# Altium schematic symbol library LIBRARY_SCH.SCHLIB: 713 symbols (part 4 of 6)
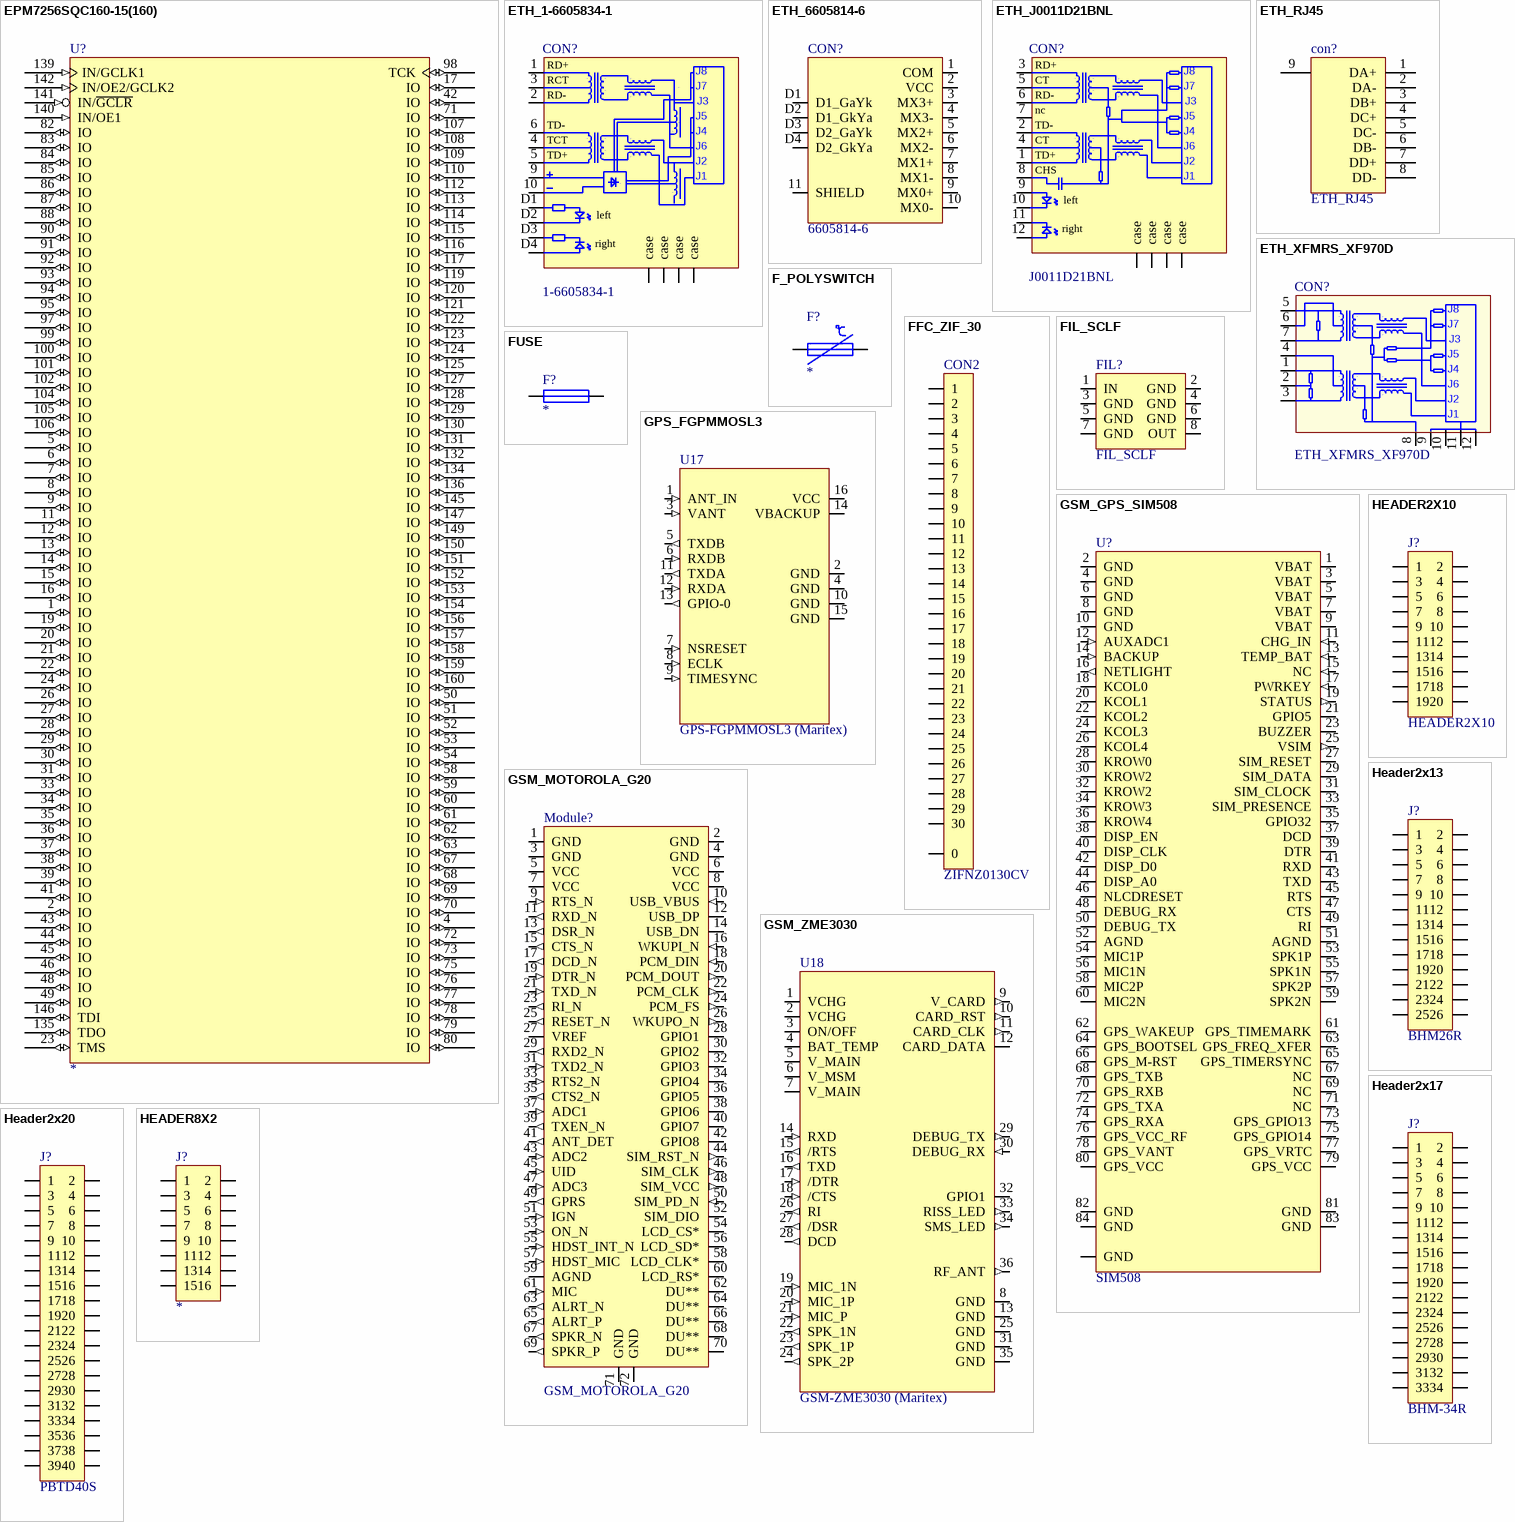
[diagram p42: symbols EPM7256SQC160-15(160) to HEADER8X2]

## EPM7256SQC160-15(160)
designator U?
MAX 7000 Programmabe Logic Device Family
footprint QFP28X28-160(N)
pins: 1 IO (io), 2 IO (io), 4 IO (io), 5 IO (io), 6 IO (io), 7 IO (io), 8 IO (io), 9 IO (io), 11 IO (io), 12 IO (io), 13 IO (io), 14 IO (io), 15 IO (io), 16 IO (io), 17 IO (io), 19 IO (io), 20 IO (io), 21 IO (io), 22 IO (io), 23 TMS (io), 24 IO (io), 26 IO (io), 27 IO (io), 28 IO (io), 29 IO (io), 30 IO (io), 31 IO (io), 33 IO (io), 34 IO (io), 35 IO (io), 36 IO (io), 37 IO (io), 38 IO (io), 39 IO (io), 41 IO (io), 42 IO (io), 43 IO (io), 44 IO (io), 45 IO (io), 46 IO (io), 48 IO (io), 49 IO (io), 50 IO (io), 51 IO (io), 52 IO (io), 53 IO (io), 54 IO (io), 58 IO (io), 59 IO (io), 60 IO (io), 61 IO (io), 62 IO (io), 63 IO (io), 67 IO (io), 68 IO (io), 69 IO (io), 70 IO (io), 71 IO (io), 72 IO (io), 73 IO (io), 75 IO (io), 76 IO (io), 77 IO (io), 78 IO (io), 79 IO (io), 80 IO (io), 82 IO (io), 83 IO (io), 84 IO (io), 85 IO (io), 86 IO (io), 87 IO (io), 88 IO (io), 90 IO (io), 91 IO (io), 92 IO (io), 93 IO (io), 94 IO (io), 95 IO (io), 97 IO (io), 98 TCK (io), 99 IO (io), 100 IO (io), 101 IO (io), 102 IO (io), 104 IO (io), 105 IO (io), 106 IO (io), 107 IO (io), 108 IO (io), 109 IO (io), 110 IO (io), 112 IO (io), 113 IO (io), 114 IO (io), 115 IO (io), 116 IO (io), 117 IO (io), 119 IO (io), 120 IO (io), 121 IO (io), 122 IO (io), 123 IO (io), 124 IO (io), 125 IO (io), 127 IO (io), 128 IO (io), 129 IO (io), 130 IO (io), 131 IO (io), 132 IO (io), 134 IO (io), 135 TDO (io), 136 IO (io), 139 IN/GCLK1 (in), 140 IN/OE1 (in), 141 IN/~{GCLR} (in), 142 IN/OE2/GCLK2 (in), 145 IO (io), 146 TDI (io), 147 IO (io), 149 IO (io), 150 IO (io), 151 IO (io), 152 IO (io), 153 IO (io), 154 IO (io), 156 IO (io), 157 IO (io), 158 IO (io), 159 IO (io), 160 IO (io)
2 alternate drawings of the same symbol

## ETH_1-6605834-1
designator CON?, comment 1-6605834-1
RJ45 with magnetics and LEDs (Pulse)
footprint ETH_1-6605834-1 (ethernet trafo with magnetics and LEDs)
pins: 0a case, 0b case, 0c case, 0d case, 1, 2, 3, 4, 5, 6 TD-, 9, 10, D1, D2, D3, D4
text: RD+; J8; RCT; J7; RD-; J3; J5; J4; TCT; J6; TD+; J2; J1; left; right

## ETH_6605814-6
designator CON?, comment 6605814-6
TYCO 7G05 series gigabit ethernet connector (Farnell)
footprint rj7G
pins: 1 COM, 2 VCC, 3 MX3+, 4 MX3-, 5 MX2+, 6 MX2-, 7 MX1+, 8 MX1-, 9 MX0+, 10 MX0-, 11 SHIELD, 11a SHIELD, D1 D1_GaYk, D2 D1_GkYa, D3 D2_GaYk, D4 D2_GkYa
2 alternate drawings of the same symbol

## ETH_J0011D21BNL
designator CON?, comment J0011D21BNL
RJ45 with magnetics and LEDs (Kamami, Kristech,Mouser)
footprint J0011D21BNL (ethernet trafo with magnetics and LEDs)
pins: 0a case, 0b case, 0c case, 0d case, 1, 2 TD-, 3, 4, 5, 6, 7, 8, 9, 10, 11, 12
text: RD+; J8; CT; J7; RD-; J3; nc; J5; J4; J6; TD+; J2; CHS; J1; left; right

## ETH_RJ45
designator con?
Ethernet Connector
footprint MOLEX_ETH_VERT
footprint MOLEX_ETH_HORIZ
pins: 1 DA+, 2 DA-, 3 DB+, 4 DC+, 5 DC-, 6 DB-, 7 DD+, 8 DD-, 9
2 alternate drawings of the same symbol

## ETH_XFMRS_XF970D
designator CON?
footprint XFMRS_XF970D
pins: 1, 2, 3, 4, 5, 6, 7, 8, 9, 10, 11, 12
text: J8; J7; J3; J5; J4; J6; J2; J1

## F_POLYSWITCH
designator F?
polymer FUSE
footprint SMD150-2
footprint SMD125-2
footprint PTC_SMD_1812
pins: 1, 2
2 alternate drawings of the same symbol

## FFC_ZIF_30
designator CON2, comment ZIFNZ0130CV
FFC cable connector (maritex)
footprint ZIFNZ0330-LF
footprint ZIFNZ0130
footprint ZIFNZ0130CV
pins: 0, 1, 2, 3, 4, 5, 6, 7, 8, 9, 10, 11, 12, 13, 14, 15, 16, 17, 18, 19, 20, 21, 22, 23, 24, 25, 26, 27, 28, 29, 30

## FIL_SCLF
designator FIL?
Minicircuits filter
footprint SCLF
pins: 1 IN, 2 GND, 3 GND, 4 GND, 5 GND, 6 GND, 7 GND, 8 OUT
2 alternate drawings of the same symbol

## FUSE
designator F?
Fuse
footprint FUSE_SMD
footprint fuse4
footprint FUSE_451
footprint car_fuse_19mm
footprint fuse_ZHL32 (ZHL32 (TME))
pins: 1, 2
2 alternate drawings of the same symbol

## GPS_FGPMMOSL3
designator U17, comment GPS-FGPMMOSL3 (Maritex)
mini GPS module
footprint FGPMMOSL3
footprint FGPMMOSL3
pins: 1 ANT_IN (in), 2 GND, 3 VANT (in), 4 GND, 5 TXDB (out), 6 RXDB (in), 7 NSRESET (in), 8 ECLK (in), 9 TIMESYNC (in), 10 GND, 11 TXDA (out), 12 RXDA (in), 13 GPIO-0 (out), 14 VBACKUP, 15 GND, 16 VCC

## GSM_GPS_SIM508
designator U?, comment SIM508
GSM module with GPS receiver (Maritex)
footprint GSM_GPS_SIM508
pins: 0a GND, 0b GND, 0c GND, 0d GND, 1 VBAT (power), 2 GND (power), 3 VBAT (power), 4 GND (power), 5 VBAT (power), 6 GND (power), 7 VBAT (power), 8 GND (power), 9 VBAT (power), 10 GND (power), 11 CHG_IN (in), 12 AUXADC1 (in), 13 TEMP_BAT (in), 14 BACKUP (in), 15 NC (in), 16 NETLIGHT (out), 17 PWRKEY (in), 18 KCOL0, 19 STATUS (out), 20 KCOL1, 21 GPIO5, 22 KCOL2, 23 BUZZER, 24 KCOL3, 25 VSIM (out), 26 KCOL4, 27 SIM_RESET, 28 KROW0, 29 SIM_DATA, 30 KROW2, 31 SIM_CLOCK, 32 KROW2, 33 SIM_PRESENCE, 34 KROW3, 35 GPIO32, 36 KROW4, 37 DCD, 38 DISP_EN, 39 DTR, 40 DISP_CLK, 41 RXD, 42 DISP_D0, 43 TXD, 44 DISP_A0, 45 RTS, 46 NLCDRESET, 47 CTS, 48 DEBUG_RX, 49 RI, 50 DEBUG_TX, 51 AGND, 52 AGND, 53 SPK1P, 54 MIC1P, 55 SPK1N, 56 MIC1N, 57 SPK2P, 58 MIC2P, 59 SPK2N, 60 MIC2N, 61 GPS_TIMEMARK, 62 GPS_WAKEUP, 63 GPS_FREQ_XFER, 64 GPS_BOOTSEL, 65 GPS_TIMERSYNC, 66 GPS_M-RST, 67 NC, 68 GPS_TXB, 69 NC, 70 GPS_RXB, 71 NC, 72 GPS_TXA, 73 GPS_GPIO13, 74 GPS_RXA, 75 GPS_GPIO14, 76 GPS_VCC_RF, 77 GPS_VRTC, 78 GPS_VANT, 79 GPS_VCC, 80 GPS_VCC, 81 GND, 82 GND, 83 GND, 84 GND

## GSM_MOTOROLA_G20
designator Module?
footprint GSM_MOTOROLA_G20
pins: 1 GND (power), 2 GND (power), 3 GND (power), 4 GND (power), 5 VCC (power), 6 VCC (power), 7 VCC (power), 8 VCC (power), 9 RTS_N (in), 10 USB_VBUS (in), 11 RXD_N (out), 12 USB_DP (io), 13 DSR_N (out), 14 USB_DN (io), 15 CTS_N (out), 16 WKUPI_N (in), 17 DCD_N (out), 18 PCM_DIN (in), 19 DTR_N (in), 20 PCM_DOUT (out), 21 TXD_N (in), 22 PCM_CLK (out), 23 RI_N (out), 24 PCM_FS (out), 25 RESET_N (out), 26 WKUPO_N (out), 27 VREF, 28 GPIO1 (io), 29 RXD2_N (out), 30 GPIO2 (io), 31 TXD2_N (in), 32 GPIO3 (io), 33 RTS2_N (in), 34 GPIO4 (io), 35 CTS2_N (out), 36 GPIO5 (io), 37 ADC1 (in), 38 GPIO6 (io), 39 TXEN_N (out), 40 GPIO7 (io), 41 ANT_DET (out), 42 GPIO8 (io), 43 ADC2 (in), 44 SIM_RST_N (out), 45 UID (in), 46 SIM_CLK (out), 47 ADC3 (in), 48 SIM_VCC (out), 49 GPRS (out), 50 SIM_PD_N (in), 51 IGN (in), 52 SIM_DIO (io), 53 ON_N (in), 54 LCD_CS*, 55 HDST_INT_N (in), 56 LCD_SD*, 57 HDST_MIC (in), 58 LCD_CLK*, 59 AGND (power), 60 LCD_RS*, 61 MIC (in), 62 DU**, 63 ALRT_N (out), 64 DU**, 65 ALRT_P (out), 66 DU**, 67 SPKR_N (out), 68 DU**, 69 SPKR_P (out), 70 DU**, 71 GND (power), 72 GND (power)

## GSM_ZME3030
designator U18, comment GSM-ZME3030 (Maritex)
GSM/GPRS module
footprint MG3030
pins: 1 VCHG, 2 VCHG, 3 ON/OFF, 4 BAT_TEMP, 5 V_MAIN, 6 V_MSM, 7 V_MAIN, 8 GND, 9 V_CARD (out), 10 CARD_RST (out), 11 CARD_CLK (out), 12 CARD_DATA (io), 13 GND, 14 RXD (in), 15 /RTS (out), 16 TXD (out), 17 /DTR (in), 18 /CTS (in), 19 MIC_1N (in), 20 MIC_1P (in), 21 MIC_P (in), 22 SPK_1N (out), 23 SPK_1P (out), 24 SPK_2P (out), 25 GND, 26 RI (out), 27 /DSR (out), 28 DCD (out), 29 DEBUG_TX (out), 30 DEBUG_RX (in), 31 GND, 32 GPIO1, 33 RISS_LED (out), 34 SMS_LED (out), 35 GND, 36 RF_ANT (out)

## HEADER2X10
designator J?
2.54mm pitch connector
footprint HEADER2x10
footprint MOLEX_20_HORIZ_FEMALE
footprint MOLEX_20_HORIZ_MALE
footprint CON_2x10_mini
pins: 1, 2, 3, 4, 5, 6, 7, 8, 9, 10, 11, 12, 13, 14, 15, 16, 17, 18, 19, 20
2 alternate drawings of the same symbol

## Header2x13
designator J?, comment BHM26R
2x13 pin 2mm male right angle connector(Maritex)
footprint BHM26R (2mm IDC connector right angle)
pins: 1, 2, 3, 4, 5, 6, 7, 8, 9, 10, 11, 12, 13, 14, 15, 16, 17, 18, 19, 20, 21, 22, 23, 24, 25, 26
2 alternate drawings of the same symbol

## Header2x17
designator J?, comment BHM-34R
2x17pin 2mm male IDC connector (Maritex)
footprint BHM-34R (2mm IDC connector right angle)
pins: 1, 2, 3, 4, 5, 6, 7, 8, 9, 10, 11, 12, 13, 14, 15, 16, 17, 18, 19, 20, 21, 22, 23, 24, 25, 26, 27, 28, 29, 30, 31, 32, 33, 34
2 alternate drawings of the same symbol

## Header2x20
designator J?, comment PBTD40S
2x20 pin 2.54mm female SMT header (Maritex)
footprint CON_2X20
footprint PBTD40S (SMT 2.54 female header  (Maritex))
footprint PBTD40s_MIRRORED (SMT 2.54 female header  (Maritex))
pins: 1, 2, 3, 4, 5, 6, 7, 8, 9, 10, 11, 12, 13, 14, 15, 16, 17, 18, 19, 20, 21, 22, 23, 24, 25, 26, 27, 28, 29, 30, 31, 32, 33, 34, 35, 36, 37, 38, 39, 40
2 alternate drawings of the same symbol

## HEADER8X2
designator J?
footprint HEADER2x8
footprint Header2x8mini
footprint IDC_16_male (IDC 2x8 PCB male connector)
pins: 1, 2, 3, 4, 5, 6, 7, 8, 9, 10, 11, 12, 13, 14, 15, 16
2 alternate drawings of the same symbol

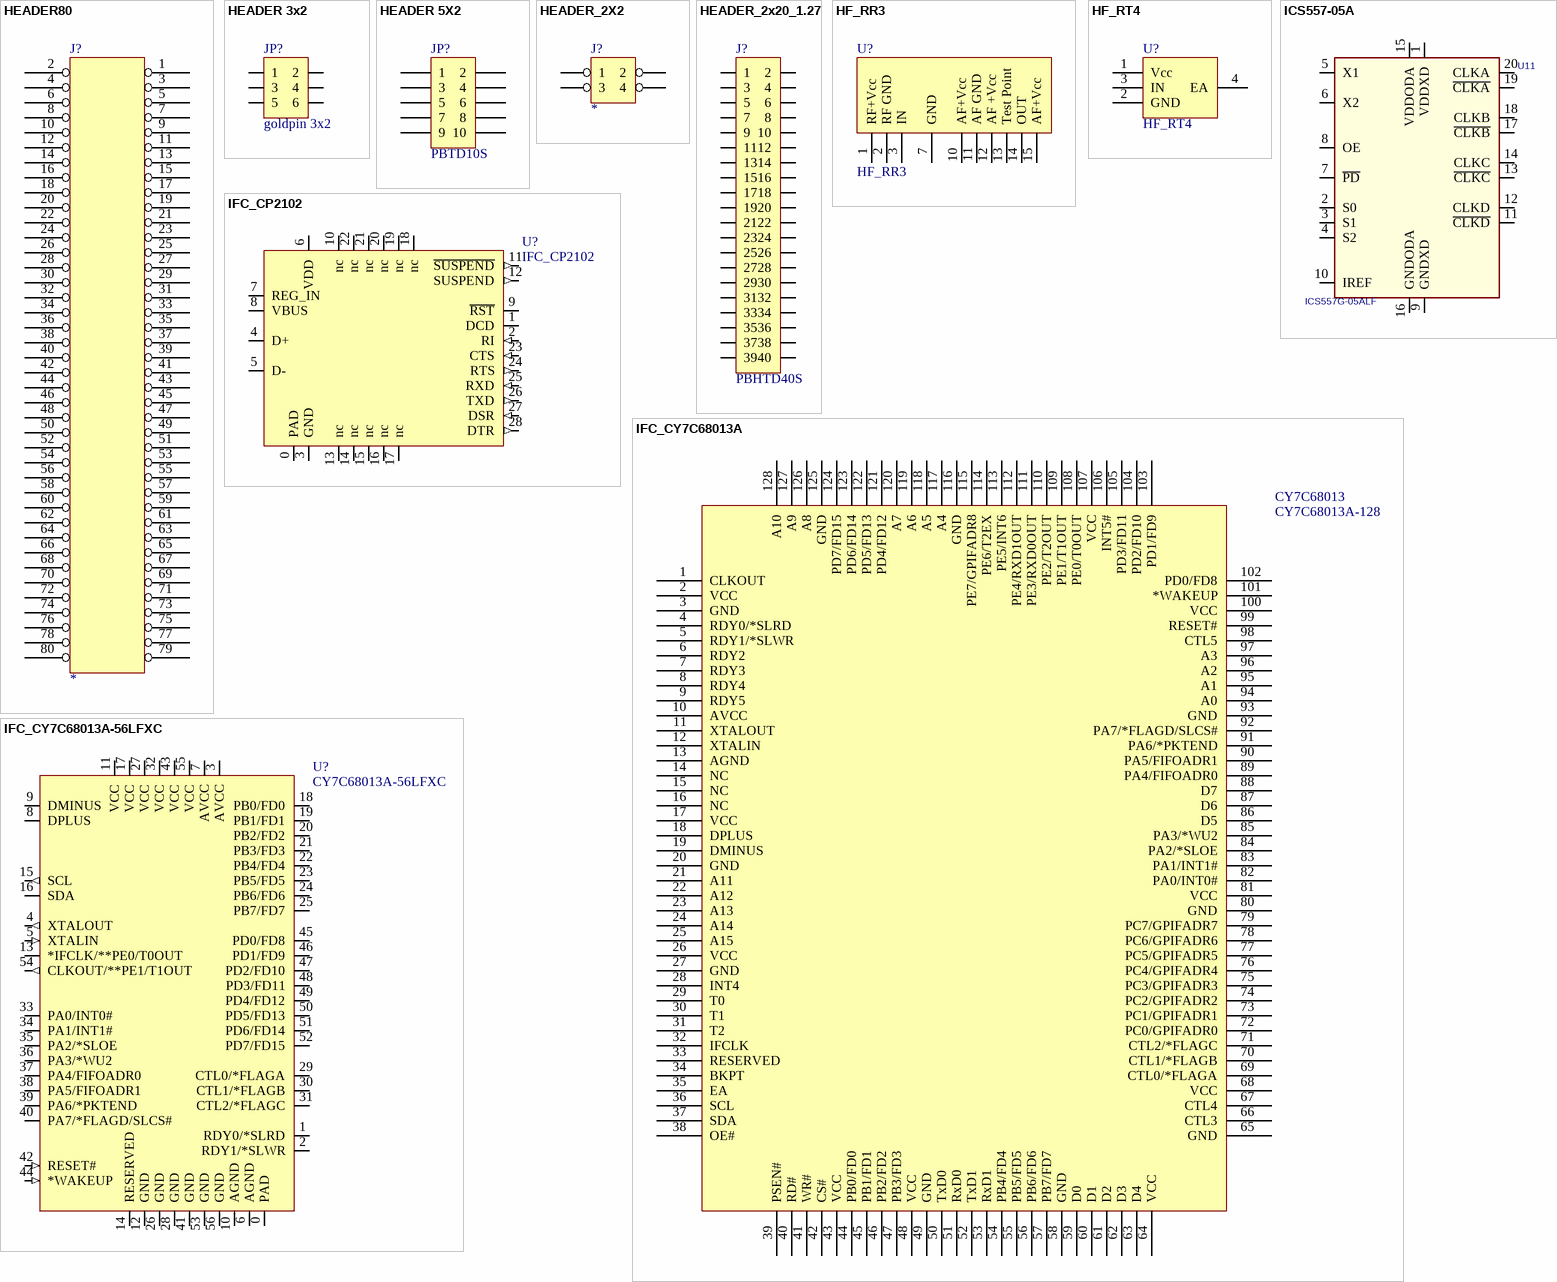
[diagram p24: symbols HEADER80 to IFC_CY7C68013A-56LFXC]

## HEADER80
designator J?
footprint HEADER80
pins: 1, 2, 3, 4, 5, 6, 7, 8, 9, 10, 11, 12, 13, 14, 15, 16, 17, 18, 19, 20, 21, 22, 23, 24, 25, 26, 27, 28, 29, 30, 31, 32, 33, 34, 35, 36, 37, 38, 39, 40, 41, 42, 43, 44, 45, 46, 47, 48, 49, 50, 51, 52, 53, 54, 55, 56, 57, 58, 59, 60, 61, 62, 63, 64, 65, 66, 67, 68, 69, 70, 71, 72, 73, 74, 75, 76, 77, 78, 79, 80
2 alternate drawings of the same symbol

## HEADER 3x2
designator JP?, comment goldpin 3x2
Goldpin 2.54mm
footprint HEADER3x2
pins: 1, 2, 3, 4, 5, 6
2 alternate drawings of the same symbol

## HEADER 5X2
designator JP?, comment PBTD10S
Goldpin 2.54mm
footprint HEADER5X2
footprint PBTD10S (SMT 2.54 female header  (Maritex))
footprint PBTD10S_MIRRORED (SMT 2.54 female header  (Maritex))
footprint CON_2x5_MINI (Footprint not found)
pins: 1, 2, 3, 4, 5, 6, 7, 8, 9, 10
2 alternate drawings of the same symbol

## HEADER_2X2
designator J?
goldpin 2x2
footprint HEADER_2x2
pins: 1, 2, 3, 4
2 alternate drawings of the same symbol

## HEADER_2x20_1.27
designator J?, comment PBHTD40S
1.27 mm dual row header (Maritex)
footprint PBHTD40S (SMT 1.27 mm dual row header)
pins: 1, 2, 3, 4, 5, 6, 7, 8, 9, 10, 11, 12, 13, 14, 15, 16, 17, 18, 19, 20, 21, 22, 23, 24, 25, 26, 27, 28, 29, 30, 31, 32, 33, 34, 35, 36, 37, 38, 39, 40
2 alternate drawings of the same symbol

## HF_RR3
designator U?
footprint RR3
pins: 1 RF+Vcc, 2 RF GND, 3 IN, 7 GND, 10 AF+Vcc, 11 AF GND, 12 AF +Vcc, 13 Test Point, 14 OUT, 15 AF+Vcc
2 alternate drawings of the same symbol

## HF_RT4
designator U?
footprint RT4
pins: 1 Vcc, 2 GND, 3 IN, 4 EA
2 alternate drawings of the same symbol

## ICS557-05A
designator U11, comment ICS557G-05ALF
QUAD DIFFERENTIAL PCI-EXPRESS CLOCK SOURCE
footprint TSSOP20
pins: 1 VDDXD (power), 2 S0, 3 S1, 4 S2, 5 X1, 6 X2, 7 ~{PD}, 8 OE, 9 GNDXD (power), 10 IREF, 11 ~{CLKD}, 12 CLKD, 13 ~{CLKC}, 14 CLKC, 15 VDDODA (power), 16 GNDODA (power), 17 ~{CLKB}, 18 CLKB, 19 ~{CLKA}, 20 CLKA

## IFC_CP2102
designator U?
footprint QFN28
pins: 0 PAD (power), 1 DCD (io), 2 RI (in), 3 GND (power), 4 D+ (io), 5 D- (io), 6 VDD (power), 7 REG_IN (power), 8 VBUS (power), 9 ~{RST} (io), 10 nc, 11 ~{SUSPEND} (out), 12 SUSPEND (out), 13 nc, 14 nc, 15 nc, 16 nc, 17 nc, 18 nc, 19 nc, 20 nc, 21 nc, 22 nc, 23 CTS (in), 24 RTS (out), 25 RXD (in), 26 TXD (out), 27 DSR (in), 28 DTR (out)

## IFC_CY7C68013A
designator CY7C68013, comment CY7C68013A-128
USB controller
footprint TQFP128
pins: 1 CLKOUT, 2 VCC, 3 GND, 4 RDY0/*SLRD, 5 RDY1/*SLWR, 6 RDY2, 7 RDY3, 8 RDY4, 9 RDY5, 10 AVCC, 11 XTALOUT, 12 XTALIN, 13 AGND, 14 NC, 15 NC, 16 NC, 17 VCC, 18 DPLUS, 19 DMINUS, 20 GND, 21 A11, 22 A12, 23 A13, 24 A14, 25 A15, 26 VCC, 27 GND, 28 INT4, 29 T0, 30 T1, 31 T2, 32 IFCLK, 33 RESERVED, 34 BKPT, 35 EA, 36 SCL, 37 SDA, 38 OE#, 39 PSEN#, 40 RD#, 41 WR#, 42 CS#, 43 VCC, 44 PB0/FD0, 45 PB1/FD1, 46 PB2/FD2, 47 PB3/FD3, 48 VCC, 49 GND, 50 TxD0, 51 RxD0, 52 TxD1, 53 RxD1, 54 PB4/FD4, 55 PB5/FD5, 56 PB6/FD6, 57 PB7/FD7, 58 GND, 59 D0, 60 D1, 61 D2, 62 D3, 63 D4, 64 VCC, 65 GND, 66 CTL3, 67 CTL4, 68 VCC, 69 CTL0/*FLAGA, 70 CTL1/*FLAGB, 71 CTL2/*FLAGC, 72 PC0/GPIFADR0, 73 PC1/GPIFADR1, 74 PC2/GPIFADR2, 75 PC3/GPIFADR3, 76 PC4/GPIFADR4, 77 PC5/GPIFADR5, 78 PC6/GPIFADR6, 79 PC7/GPIFADR7, 80 GND, 81 VCC, 82 PA0/INT0#, 83 PA1/INT1#, 84 PA2/*SLOE, 85 PA3/*WU2, 86 D5, 87 D6, 88 D7, 89 PA4/FIFOADR0, 90 PA5/FIFOADR1, 91 PA6/*PKTEND, 92 PA7/*FLAGD/SLCS#, 93 GND, 94 A0, 95 A1, 96 A2, 97 A3, 98 CTL5, 99 RESET#, 100 VCC, 101 *WAKEUP, 102 PD0/FD8, 103 PD1/FD9, 104 PD2/FD10, 105 PD3/FD11, 106 INT5#, 107 VCC, 108 PE0/T0OUT, 109 PE1/T1OUT, 110 PE2/T2OUT, 111 PE3/RXD0OUT, 112 PE4/RXD1OUT, 113 PE5/INT6, 114 PE6/T2EX, 115 PE7/GPIFADR8, 116 GND, 117 A4, 118 A5, 119 A6, 120 A7, 121 PD4/FD12, 122 PD5/FD13, 123 PD6/FD14, 124 PD7/FD15, 125 GND, 126 A8, 127 A9, 128 A10
2 alternate drawings of the same symbol

## IFC_CY7C68013A-56LFXC
designator U?, comment CY7C68013A-56LFXC
USB high speed controller (Maritex)
footprint QFN56A (Footprint not found)
pins: 0 PAD (power), 1 RDY0/*SLRD (io), 2 RDY1/*SLWR (io), 3 AVCC (power), 4 XTALOUT (out), 5 XTALIN (in), 6 AGND (power), 7 AVCC (power), 8 DPLUS (io), 9 DMINUS (io), 10 AGND (power), 11 VCC (power), 12 GND (power), 13 *IFCLK/**PE0/T0OUT (io), 14 RESERVED, 15 SCL (out), 16 SDA (io), 17 VCC (power), 18 PB0/FD0 (io), 19 PB1/FD1 (io), 20 PB2/FD2 (io), 21 PB3/FD3 (io), 22 PB4/FD4 (io), 23 PB5/FD5 (io), 24 PB6/FD6 (io), 25 PB7/FD7 (io), 26 GND (power), 27 VCC (power), 28 GND (power), 29 CTL0/*FLAGA (io), 30 CTL1/*FLAGB (io), 31 CTL2/*FLAGC (io), 32 VCC (power), 33 PA0/INT0# (io), 34 PA1/INT1# (io), 35 PA2/*SLOE (io), 36 PA3/*WU2 (io), 37 PA4/FIFOADR0 (io), 38 PA5/FIFOADR1 (io), 39 PA6/*PKTEND (io), 40 PA7/*FLAGD/SLCS# (io), 41 GND (power), 42 RESET# (in), 43 VCC (power), 44 *WAKEUP (in), 45 PD0/FD8 (io), 46 PD1/FD9 (io), 47 PD2/FD10 (io), 48 PD3/FD11 (io), 49 PD4/FD12 (io), 50 PD5/FD13 (io), 51 PD6/FD14 (io), 52 PD7/FD15 (io), 53 GND (power), 54 CLKOUT/**PE1/T1OUT (out), 55 VCC (power), 56 GND (power)

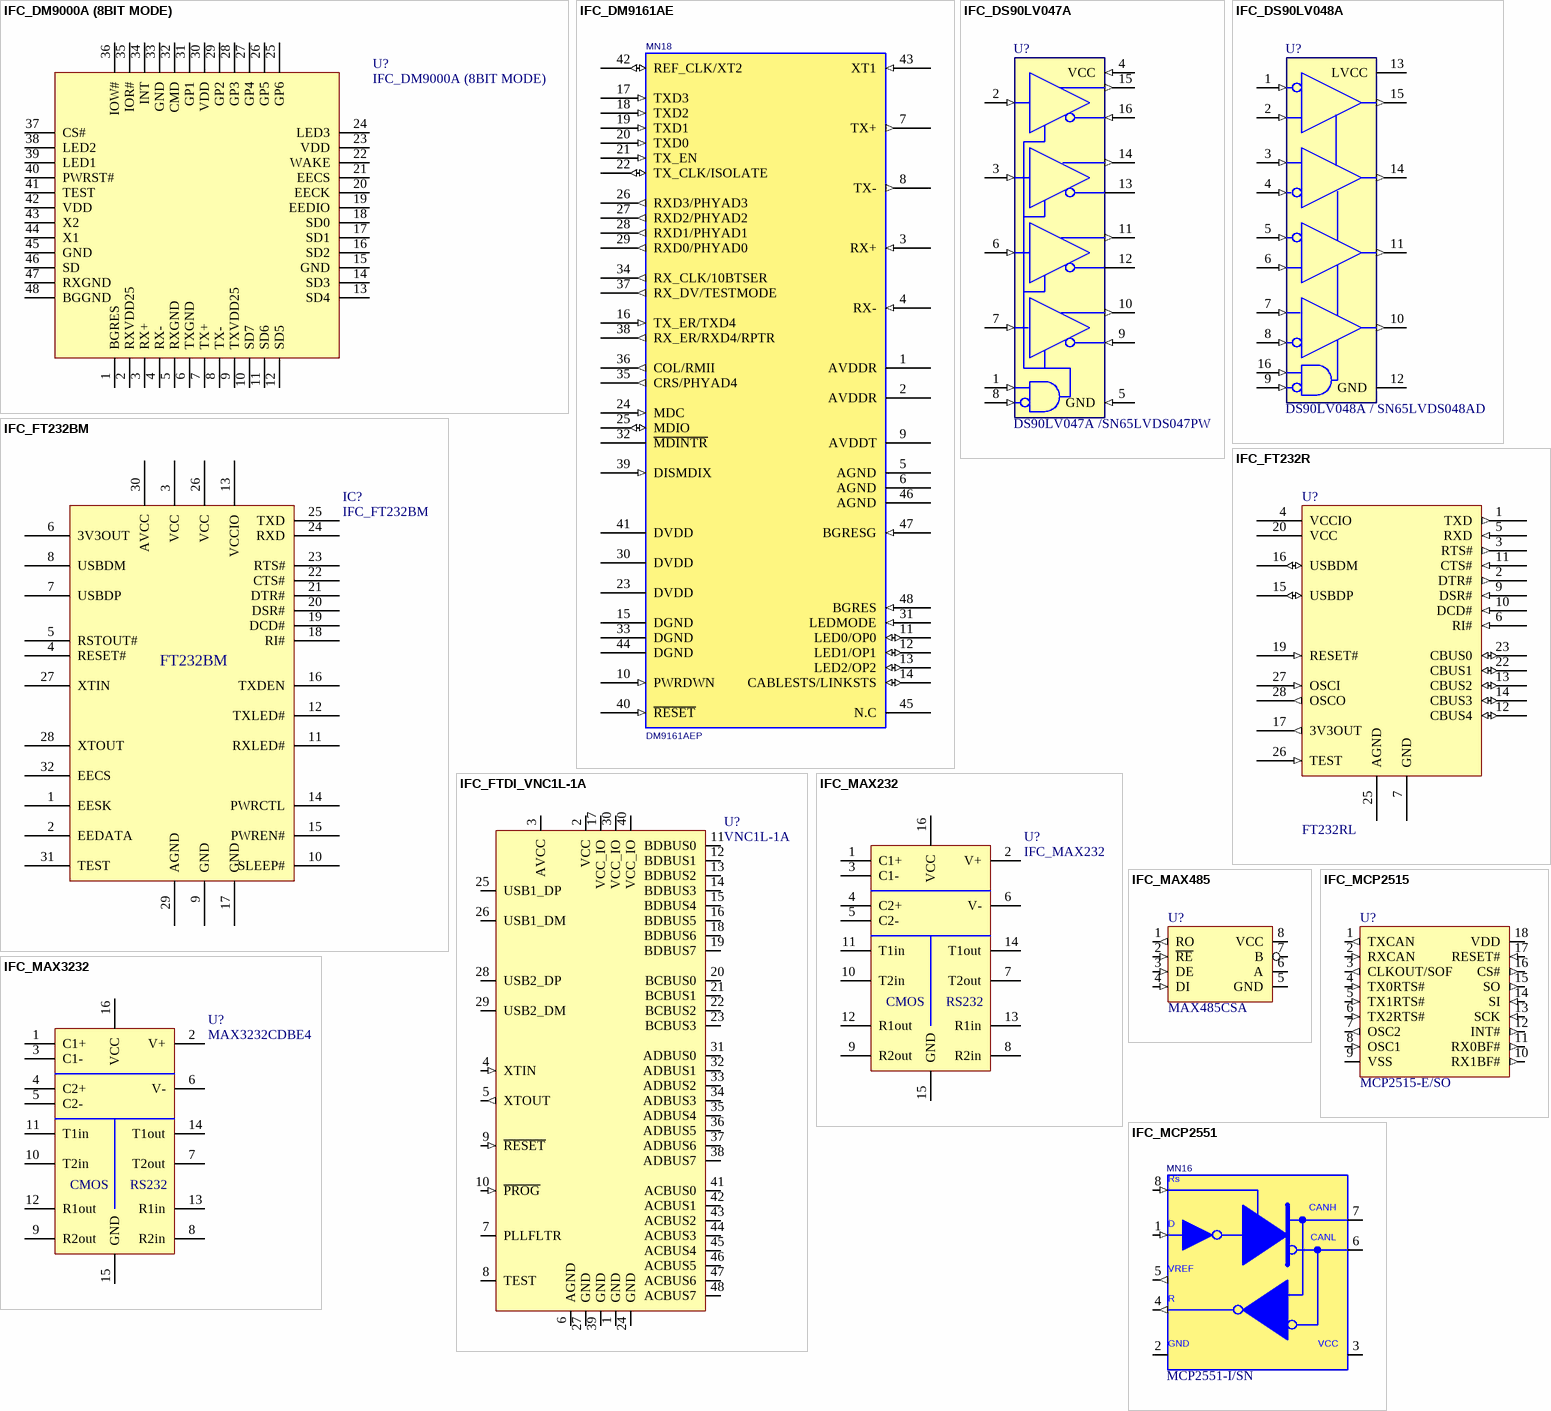
[diagram p25: symbols IFC_DM9000A (8BIT MODE) to IFC_MCP2551]

## IFC_DM9000A (8BIT MODE)
designator U?
Davicom T10/T100  UTP MAC+PHY
footprint LQFP48L
pins: 1 BGRES, 2 RXVDD25, 3 RX+, 4 RX-, 5 RXGND, 6 TXGND, 7 TX+, 8 TX-, 9 TXVDD25, 10 SD7, 11 SD6, 12 SD5, 13 SD4, 14 SD3, 15 GND, 16 SD2, 17 SD1, 18 SD0, 19 EEDIO, 20 EECK, 21 EECS, 22 WAKE, 23 VDD, 24 LED3, 25 GP6, 26 GP5, 27 GP4, 28 GP3, 29 GP2, 30 VDD, 31 GP1, 32 CMD, 33 GND, 34 INT, 35 IOR#, 36 IOW#, 37 CS#, 38 LED2, 39 LED1, 40 PWRST#, 41 TEST, 42 VDD, 43 X2, 44 X1, 45 GND, 46 SD, 47 RXGND, 48 BGGND
2 alternate drawings of the same symbol

## IFC_DM9161AE
designator MN18, comment DM9161AEP
DEV: QFP48_01; FAB: DAVICOM; BOI: LQFP48; DESIG: 10/100 Fast Ethernet Tranceiver MII/RMII Auto MDIX; Right: 160; Bottom: 450; VAL: DM9161AEP; RoHS: YES; REF: DM9161AEP
footprint LQFP48l
pins: 1 AVDDR (power), 2 AVDDR (power), 3 RX+ (in), 4 RX- (in), 5 AGND (power), 6 AGND (power), 7 TX+ (out), 8 TX- (out), 9 AVDDT (power), 10 PWRDWN (in), 11 LED0/OP0 (io), 12 LED1/OP1 (io), 13 LED2/OP2 (io), 14 CABLESTS/LINKSTS (io), 15 DGND (power), 16 TX_ER/TXD4 (in), 17 TXD3 (in), 18 TXD2 (in), 19 TXD1 (in), 20 TXD0 (in), 21 TX_EN (in), 22 TX_CLK/ISOLATE (io), 23 DVDD (power), 24 MDC (in), 25 MDIO (io), 26 RXD3/PHYAD3 (out), 27 RXD2/PHYAD2 (out), 28 RXD1/PHYAD1 (out), 29 RXD0/PHYAD0 (out), 30 DVDD (power), 31 LEDMODE (in), 32 ~{MDINTR} (hiz), 33 DGND (power), 34 RX_CLK/10BTSER (out), 35 CRS/PHYAD4 (out), 36 COL/RMII (out), 37 RX_DV/TESTMODE (out), 38 RX_ER/RXD4/RPTR (out), 39 DISMDIX (in), 40 ~{RESET} (in), 41 DVDD (power), 42 REF_CLK/XT2 (io), 43 XT1 (in), 44 DGND (power), 45 N.C, 46 AGND (power), 47 BGRESG (in), 48 BGRES (in)

## IFC_DS90LV047A
designator U?, comment DS90LV047A /SN65LVDS047PW
footprint so-16
footprint TSSOP-16
pins: 1 (in), 2 (in), 3 (in), 4 VCC (in), 5 GND (in), 6 (in), 7 (in), 8 (in), 9 (in), 10 (out), 11 (out), 12, 13 (power), 14 (out), 15 (out), 16 (in)
2 alternate drawings of the same symbol

## IFC_DS90LV048A
designator U?, comment DS90LV048A / SN65LVDS048AD
footprint SO-16
footprint TSSOP-16
pins: 1 (in), 2 (in), 3 (in), 4 (in), 5 (in), 6 (in), 7 (in), 8 (in), 9 (in), 10 (out), 11 (out), 12 GND, 13 LVCC (power), 14 (out), 15 (out), 16 (in)
2 alternate drawings of the same symbol

## IFC_FT232BM
designator IC?
USB-RS232 Transceiver
footprint 32_LD_LQFP
pins: 1 EESK, 2 EEDATA, 3 VCC, 4 RESET#, 5 RSTOUT#, 6 3V3OUT, 7 USBDP, 8 USBDM, 9 GND, 10 SLEEP#, 11 RXLED#, 12 TXLED#, 13 VCCIO, 14 PWRCTL, 15 PWREN#, 16 TXDEN, 17 GND, 18 RI#, 19 DCD#, 20 DSR#, 21 DTR#, 22 CTS#, 23 RTS#, 24 RXD, 25 TXD, 26 VCC, 27 XTIN, 28 XTOUT, 29 AGND, 30 AVCC, 31 TEST, 32 EECS
2 alternate drawings of the same symbol
text: FT232BM

## IFC_FT232R
designator U?, comment FT232RL
USB UART Asynchronous Serial Data Transfer Chip
footprint SSOP28 (SSOP, Plastic; 28 Leads; Body Width 5.3 mm; Pitch 0.65 mm)
pins: 1 TXD (out), 2 DTR# (out), 3 RTS# (out), 4 VCCIO (power), 5 RXD (in), 6 RI# (in), 7 GND (power), 8 NC hidden, 9 DSR# (in), 10 DCD# (in), 11 CTS# (in), 12 CBUS4 (io), 13 CBUS2 (io), 14 CBUS3 (io), 15 USBDP (io), 16 USBDM (io), 17 3V3OUT (out), 18 GND (power) hidden to 7, 19 RESET# (in), 20 VCC (power), 21 GND (power) hidden to 7, 22 CBUS1 (io), 23 CBUS0 (io), 24 NC hidden, 25 AGND (power), 26 TEST (in), 27 OSCI (in), 28 OSCO (out)

## IFC_FTDI_VNC1L-1A
designator U?, comment VNC1L-1A
Embedded USB Host Controller I.C.
footprint LQFP48L
pins: 1 GND (power), 2 VCC (power), 3 AVCC (power), 4 XTIN (in), 5 XTOUT (out), 6 AGND (power), 7 PLLFLTR, 8 TEST, 9 ~{RESET} (in), 10 ~{PROG} (in), 11 BDBUS0 (io), 12 BDBUS1 (io), 13 BDBUS2 (io), 14 BDBUS3 (io), 15 BDBUS4 (io), 16 BDBUS5 (io), 17 VCC_IO (power), 18 BDBUS6 (io), 19 BDBUS7 (io), 20 BCBUS0 (io), 21 BCBUS1 (io), 22 BCBUS2 (io), 23 BCBUS3 (io), 24 GND (power), 25 USB1_DP (io), 26 USB1_DM (io), 27 GND (power), 28 USB2_DP (io), 29 USB2_DM (io), 30 VCC_IO (power), 31 ADBUS0 (io), 32 ADBUS1 (io), 33 ADBUS2 (io), 34 ADBUS3 (io), 35 ADBUS4 (io), 36 ADBUS5 (io), 37 ADBUS6 (io), 38 ADBUS7 (io), 39 GND (power), 40 VCC_IO (power), 41 ACBUS0 (power), 42 ACBUS1 (power), 43 ACBUS2 (power), 44 ACBUS3 (power), 45 ACBUS4 (power), 46 ACBUS5 (power), 47 ACBUS6 (power), 48 ACBUS7 (power)

## IFC_MAX232
designator U?
footprint SO16W
footprint DIP-16
footprint so-16
pins: 1 C1+, 2 V+, 3 C1-, 4 C2+, 5 C2-, 6 V-, 7 T2out, 8 R2in, 9 R2out, 10 T2in, 11 T1in, 12 R1out, 13 R1in, 14 T1out, 15 GND, 16 VCC
2 alternate drawings of the same symbol
text: CMOS; RS232

## IFC_MAX485
designator U?, comment MAX485CSA
footprint SO-8
pins: 1 RO (out), 2 ~{RE} (in), 3 DE (in), 4 DI (in), 5 GND (power), 6 A (io), 7 B (io), 8 VCC (power)

## IFC_MAX3232
designator U?, comment MAX3232CDBE4
footprint SSOP16
pins: 1 C1+, 2 V+, 3 C1-, 4 C2+, 5 C2-, 6 V-, 7 T2out, 8 R2in, 9 R2out, 10 T2in, 11 T1in, 12 R1out, 13 R1in, 14 T1out, 15 GND, 16 VCC
2 alternate drawings of the same symbol
text: CMOS; RS232

## IFC_MCP2515
designator U?, comment MCP2515-E/SO
CAN Controller With SPI nterface
footprint SOL-18
pins: 1 TXCAN (out), 2 RXCAN (in), 3 CLKOUT/SOF (out), 4 TX0RTS# (in), 5 TX1RTS# (in), 6 TX2RTS# (in), 7 OSC2 (out), 8 OSC1 (in), 9 VSS (power), 10 RX1BF# (out), 11 RX0BF# (out), 12 INT# (out), 13 SCK (in), 14 SI (in), 15 SO (out), 16 CS# (out), 17 RESET# (in), 18 VDD (power)

## IFC_MCP2551
designator MN16, comment MCP2551-I/SN
CAN transceiver; REF: SN65HVD234D; DESIG: 3.3V CAN TRANCEIVER; BOI: SO8; DEV: SO08; FAB: TI; Right: 120; Bottom: 130
footprint SO-8
pins: 1 TXD (in), 2 GND (power), 3 VCC (power), 4 RXD (out), 5 VREF (out), 6 CANL, 7 CANH, 8 RS (in)
text: Rs; D; R

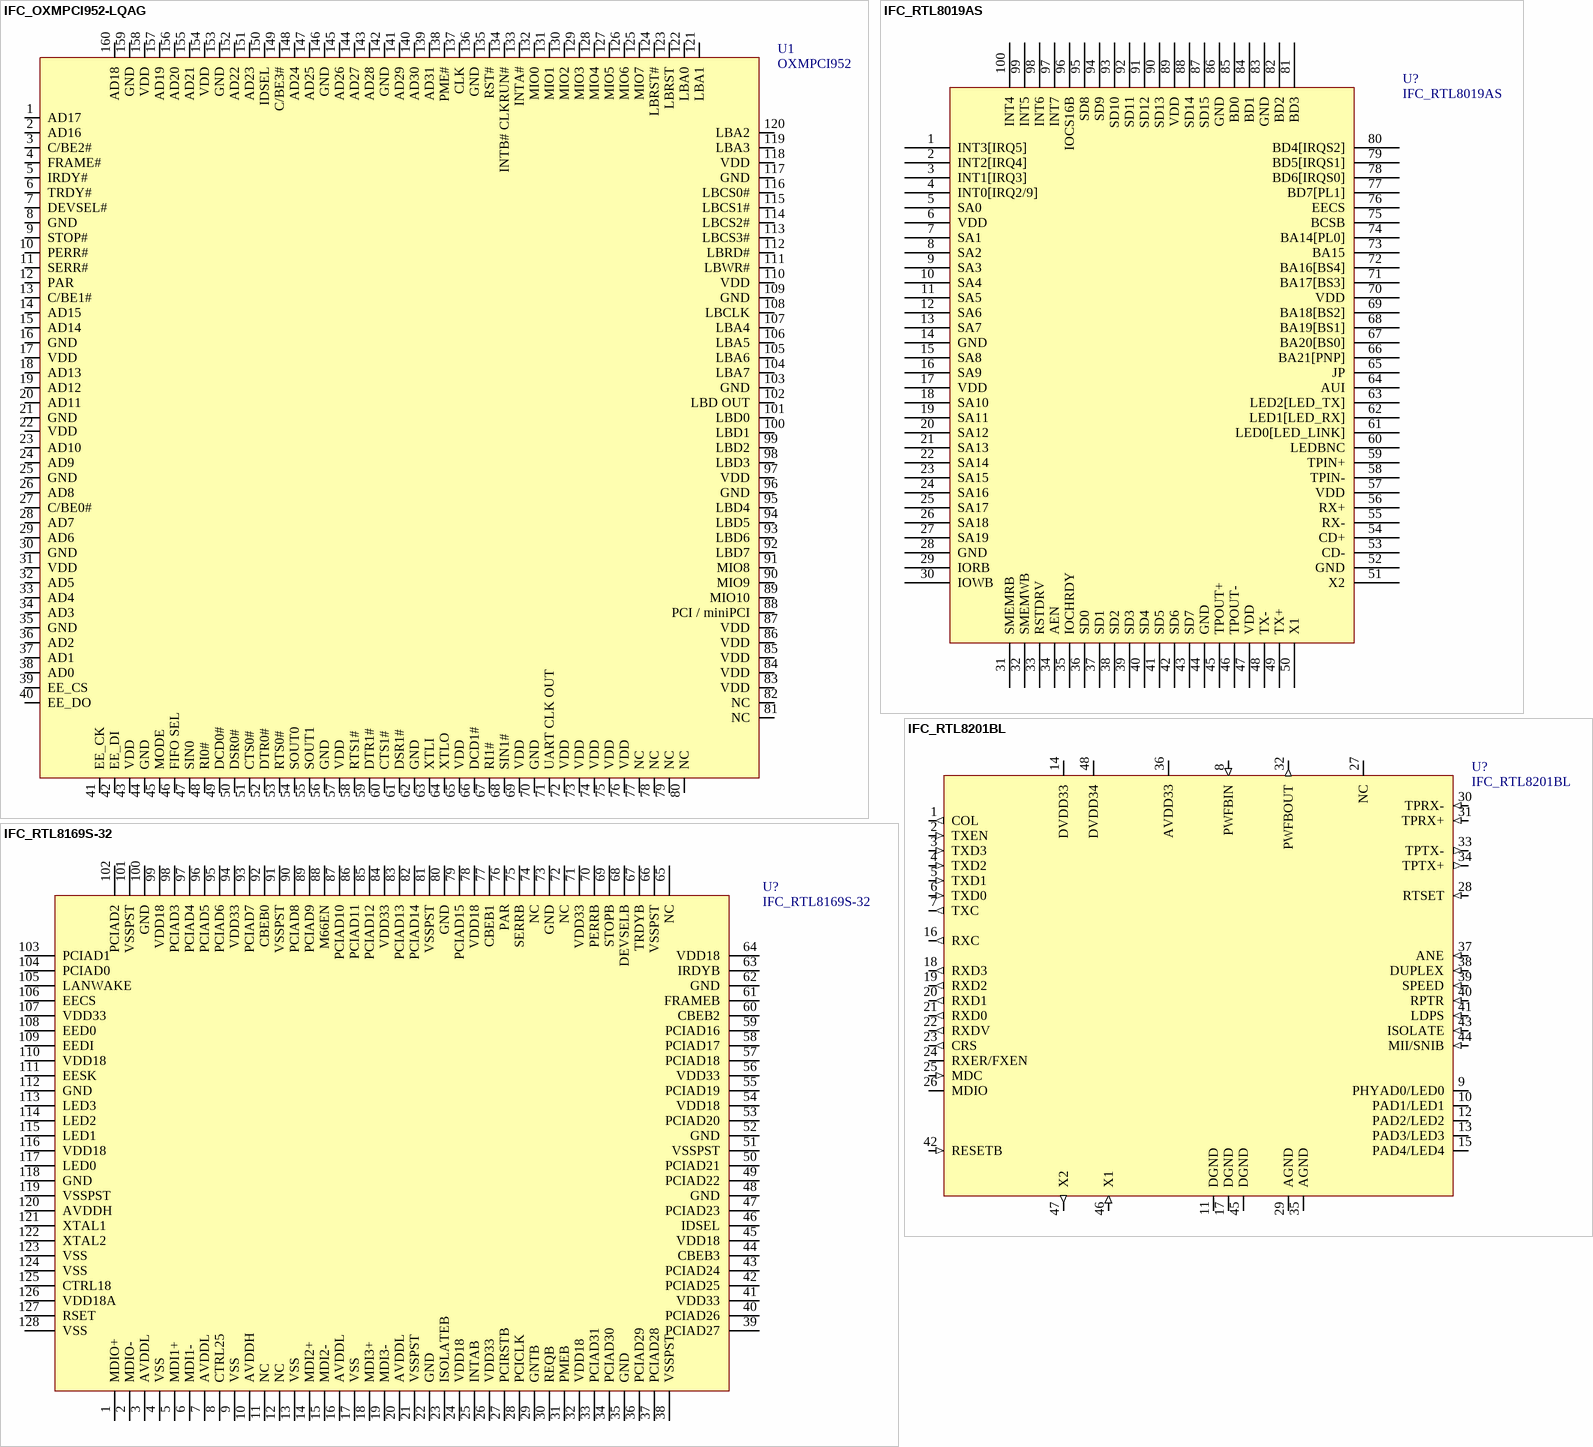
[diagram p26: symbols IFC_OXMPCI952-LQAG to IFC_RTL8201BL]

## IFC_OXMPCI952-LQAG
designator U1, comment OXMPCI952
PCI -> UART bridge
footprint LQFP-160
pins: 1 AD17, 2 AD16, 3 C/BE2#, 4 FRAME#, 5 IRDY#, 6 TRDY#, 7 DEVSEL#, 8 GND, 9 STOP#, 10 PERR#, 11 SERR#, 12 PAR, 13 C/BE1#, 14 AD15, 15 AD14, 16 GND, 17 VDD, 18 AD13, 19 AD12, 20 AD11, 21 GND, 22 VDD, 23 AD10, 24 AD9, 25 GND, 26 AD8, 27 C/BE0#, 28 AD7, 29 AD6, 30 GND, 31 VDD, 32 AD5, 33 AD4, 34 AD3, 35 GND, 36 AD2, 37 AD1, 38 AD0, 39 EE_CS, 40 EE_DO, 41 EE_CK, 42 EE_DI, 43 VDD, 44 GND, 45 MODE, 46 FIFO SEL, 47 SIN0, 48 RI0#, 49 DCD0#, 50 DSR0#, 51 CTS0#, 52 DTR0#, 53 RTS0#, 54 SOUT0, 55 SOUT1, 56 GND, 57 VDD, 58 RTS1#, 59 DTR1#, 60 CTS1#, 61 DSR1#, 62 GND, 63 XTLI, 64 XTLO, 65 VDD, 66 DCD1#, 67 RI1#, 68 SIN1#, 69 VDD, 70 GND, 71 UART CLK OUT, 72 VDD, 73 VDD, 74 VDD, 75 VDD, 76 VDD, 77 NC, 78 NC, 79 NC, 80 NC, 81 NC, 82 NC, 83 VDD, 84 VDD, 85 VDD, 86 VDD, 87 VDD, 88 PCI / miniPCI, 89 MIO10, 90 MIO9, 91 MIO8, 92 LBD7, 93 LBD6, 94 LBD5, 95 LBD4, 96 GND, 97 VDD, 98 LBD3, 99 LBD2, 100 LBD1, 101 LBD0, 102 LBD OUT, 103 GND, 104 LBA7, 105 LBA6, 106 LBA5, 107 LBA4, 108 LBCLK, 109 GND, 110 VDD, 111 LBWR#, 112 LBRD#, 113 LBCS3#, 114 LBCS2#, 115 LBCS1#, 116 LBCS0#, 117 GND, 118 VDD, 119 LBA3, 120 LBA2, 121 LBA1, 122 LBA0, 123 LBRST, 124 LBRST#, 125 MIO7, 126 MIO6, 127 MIO5, 128 MIO4, 129 MIO3, 130 MIO2, 131 MIO1, 132 MIO0, 133 INTA#, 134 INTB# CLKRUN#, 135 RST#, 136 GND, 137 CLK, 138 PME#, 139 AD31, 140 AD30, 141 AD29, 142 GND, 143 AD28, 144 AD27, 145 AD26, 146 GND, 147 AD25, 148 AD24, 149 C/BE3#, 150 IDSEL, 151 AD23, 152 AD22, 153 GND, 154 VDD, 155 AD21, 156 AD20, 157 AD19, 158 VDD, 159 GND, 160 AD18

## IFC_RTL8019AS
designator U?
footprint 100LQFP
pins: 1 INT3[IRQ5], 2 INT2[IRQ4], 3 INT1[IRQ3], 4 INT0[IRQ2/9], 5 SA0, 6 VDD, 7 SA1, 8 SA2, 9 SA3, 10 SA4, 11 SA5, 12 SA6, 13 SA7, 14 GND, 15 SA8, 16 SA9, 17 VDD, 18 SA10, 19 SA11, 20 SA12, 21 SA13, 22 SA14, 23 SA15, 24 SA16, 25 SA17, 26 SA18, 27 SA19, 28 GND, 29 IORB, 30 IOWB, 31 SMEMRB, 32 SMEMWB, 33 RSTDRV, 34 AEN, 35 IOCHRDY, 36 SD0, 37 SD1, 38 SD2, 39 SD3, 40 SD4, 41 SD5, 42 SD6, 43 SD7, 44 GND, 45 TPOUT+, 46 TPOUT-, 47 VDD, 48 TX-, 49 TX+, 50 X1, 51 X2, 52 GND, 53 CD-, 54 CD+, 55 RX-, 56 RX+, 57 VDD, 58 TPIN-, 59 TPIN+, 60 LEDBNC, 61 LED0[LED_LINK], 62 LED1[LED_RX], 63 LED2[LED_TX], 64 AUI, 65 JP, 66 BA21[PNP], 67 BA20[BS0], 68 BA19[BS1], 69 BA18[BS2], 70 VDD, 71 BA17[BS3], 72 BA16[BS4], 73 BA15, 74 BA14[PL0], 75 BCSB, 76 EECS, 77 BD7[PL1], 78 BD6[IRQS0], 79 BD5[IRQS1], 80 BD4[IRQS2], 81 BD3, 82 BD2, 83 GND, 84 BD1, 85 BD0, 86 GND, 87 SD15, 88 SD14, 89 VDD, 90 SD13, 91 SD12, 92 SD11, 93 SD10, 94 SD9, 95 SD8, 96 IOCS16B, 97 INT7, 98 INT6, 99 INT5, 100 INT4
2 alternate drawings of the same symbol

## IFC_RTL8169S-32
designator U?
Gigabit Ethernet MAC+ PHY
footprint QFP128
pins: 1 MDIO+, 2 MDIO-, 3 AVDDL, 4 VSS, 5 MDI1+, 6 MDI1-, 7 AVDDL, 8 CTRL25, 9 VSS, 10 AVDDH, 11 NC, 12 NC, 13 VSS, 14 MDI2+, 15 MDI2-, 16 AVDDL, 17 VSS, 18 MDI3+, 19 MDI3-, 20 AVDDL, 21 VSSPST, 22 GND, 23 ISOLATEB, 24 VDD18, 25 INTAB, 26 VDD33, 27 PCIRSTB, 28 PCICLK, 29 GNTB, 30 REQB, 31 PMEB, 32 VDD18, 33 PCIAD31, 34 PCIAD30, 35 GND, 36 PCIAD29, 37 PCIAD28, 38 VSSPST, 39 PCIAD27, 40 PCIAD26, 41 VDD33, 42 PCIAD25, 43 PCIAD24, 44 CBEB3, 45 VDD18, 46 IDSEL, 47 PCIAD23, 48 GND, 49 PCIAD22, 50 PCIAD21, 51 VSSPST, 52 GND, 53 PCIAD20, 54 VDD18, 55 PCIAD19, 56 VDD33, 57 PCIAD18, 58 PCIAD17, 59 PCIAD16, 60 CBEB2, 61 FRAMEB, 62 GND, 63 IRDYB, 64 VDD18, 65 NC, 66 VSSPST, 67 TRDYB, 68 DEVSELB, 69 STOPB, 70 PERRB, 71 VDD33, 72 NC, 73 GND, 74 NC, 75 SERRB, 76 PAR, 77 CBEB1, 78 VDD18, 79 PCIAD15, 80 GND, 81 VSSPST, 82 PCIAD14, 83 PCIAD13, 84 VDD33, 85 PCIAD12, 86 PCIAD11, 87 PCIAD10, 88 M66EN, 89 PCIAD9, 90 PCIAD8, 91 VSSPST, 92 CBEB0, 93 PCIAD7, 94 VDD33, 95 PCIAD6, 96 PCIAD5, 97 PCIAD4, 98 PCIAD3, 99 VDD18, 100 GND, 101 VSSPST, 102 PCIAD2, 103 PCIAD1, 104 PCIAD0, 105 LANWAKE, 106 EECS, 107 VDD33, 108 EED0, 109 EEDI, 110 VDD18, 111 EESK, 112 GND, 113 LED3, 114 LED2, 115 LED1, 116 VDD18, 117 LED0, 118 GND, 119 VSSPST, 120 AVDDH, 121 XTAL1, 122 XTAL2, 123 VSS, 124 VSS, 125 CTRL18, 126 VDD18A, 127 RSET, 128 VSS
2 alternate drawings of the same symbol

## IFC_RTL8201BL
designator U?
footprint LQFP48L
pins: 1 COL (out), 2 TXEN (in), 3 TXD3 (in), 4 TXD2 (in), 5 TXD1 (in), 6 TXD0 (in), 7 TXC (out), 8 PWFBIN (in), 9 PHYAD0/LED0 (io), 10 PAD1/LED1 (io), 11 DGND (power), 12 PAD2/LED2 (io), 13 PAD3/LED3 (io), 14 DVDD33 (power), 15 PAD4/LED4 (io), 16 RXC (out), 17 DGND (power), 18 RXD3 (out), 19 RXD2 (out), 20 RXD1 (out), 21 RXD0 (out), 22 RXDV (out), 23 CRS (out), 24 RXER/FXEN (io), 25 MDC (in), 26 MDIO (io), 27 NC, 28 RTSET (in), 29 AGND (power), 30 TPRX- (in), 31 TPRX+ (in), 32 PWFBOUT (out), 33 TPTX- (out), 34 TPTX+ (out), 35 AGND (power), 36 AVDD33 (power), 37 ANE (in), 38 DUPLEX (in), 39 SPEED (in), 40 RPTR (in), 41 LDPS (in), 42 RESETB (in), 43 ISOLATE (in), 44 MII/SNIB (in), 45 DGND (power), 46 X1 (in), 47 X2 (out), 48 DVDD34 (power)

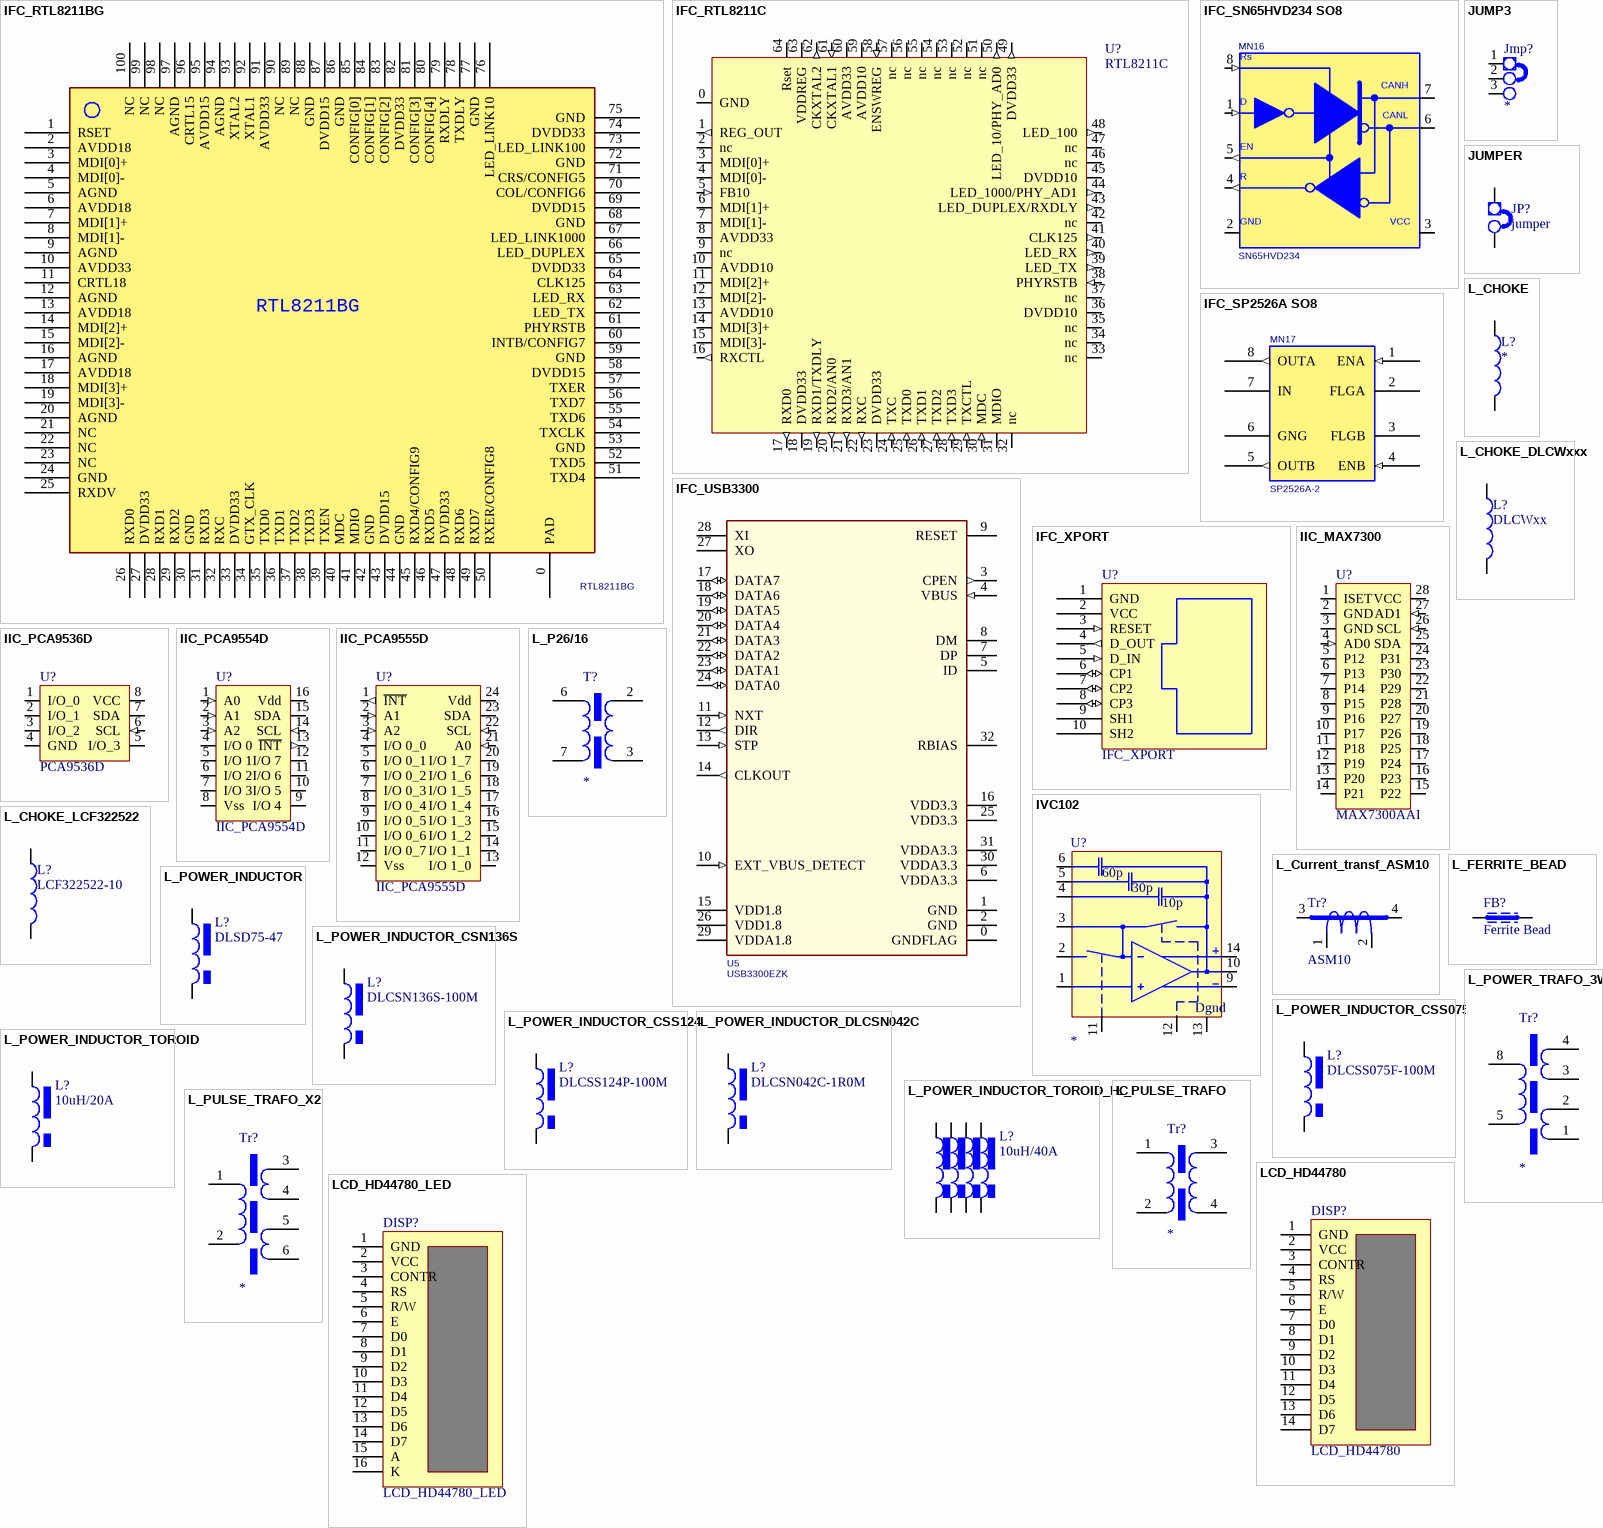
[diagram p27: symbols IFC_RTL8211BG to LCD_HD44780_LED]

## IFC_RTL8211BG
designator U?, comment RTL8211BG
Right: 350; Bottom: 310
footprint LQFP100 (QFP; 100 Leads; Body 14 x 14 mm; Pitch 0.5 mm)
pins: 0 PAD (power), 1 RSET, 2 AVDD18 (power), 3 MDI[0]+, 4 MDI[0]-, 5 AGND, 6 AVDD18 (power), 7 MDI[1]+, 8 MDI[1]-, 9 AGND, 10 AVDD33 (power), 11 CRTL18, 12 AGND, 13 AVDD18 (power), 14 MDI[2]+, 15 MDI[2]- (power), 16 AGND, 17 AVDD18 (power), 18 MDI[3]+, 19 MDI[3]-, 20 AGND, 21 NC, 22 NC, 23 NC, 24 GND, 25 RXDV, 26 RXD0, 27 DVDD33 (power), 28 RXD1, 29 RXD2, 30 GND, 31 RXD3, 32 RXC, 33 DVDD33, 34 GTX_CLK, 35 TXD0, 36 TXD1, 37 TXD2, 38 TXD3, 39 TXEN, 40 MDC, 41 MDIO, 42 GND, 43 DVDD15 (power), 44 GND, 45 RXD4/CONFIG9, 46 RXD5, 47 DVDD33, 48 RXD6, 49 RXD7, 50 RXER/CONFIG8, 51 TXD4, 52 TXD5, 53 GND, 54 TXCLK, 55 TXD6, 56 TXD7, 57 TXER, 58 DVDD15, 59 GND, 60 INTB/CONFIG7, 61 PHYRSTB, 62 LED_TX, 63 LED_RX, 64 CLK125, 65 DVDD33, 66 LED_DUPLEX, 67 LED_LINK1000, 68 GND, 69 DVDD15, 70 COL/CONFIG6, 71 CRS/CONFIG5, 72 GND, 73 LED_LINK100, 74 DVDD33 (power), 75 GND, 76 LED_LINK10, 77 GND, 78 TXDLY, 79 RXDLY, 80 CONFIG[4], 81 CONFIG[3], 82 DVDD33, 83 CONFIG[2], 84 CONFIG[1], 85 CONFIG[0], 86 GND, 87 DVDD15, 88 GND, 89 NC, 90 NC, 91 AVDD33 (power), 92 XTAL1, 93 XTAL2, 94 AGND, 95 AVDD15, 96 CRTL15, 97 AGND, 98 NC, 99 NC, 100 NC

## IFC_RTL8211C
designator U?, comment RTL8211C
footprint QFN64 (Footprint not found)
pins: 0 GND (power), 1 REG_OUT (out), 2 nc, 3 MDI[0]+ (io), 4 MDI[0]- (io), 5 FB10 (in), 6 MDI[1]+ (io), 7 MDI[1]- (io), 8 AVDD33 (power), 9 nc, 10 AVDD10, 11 MDI[2]+ (io), 12 MDI[2]- (io), 13 AVDD10 (power), 14 MDI[3]+ (io), 15 MDI[3]- (io), 16 RXCTL (out), 17 RXD0 (out), 18 DVDD33 (power), 19 RXD1/TXDLY (out), 20 RXD2/AN0 (out), 21 RXD3/AN1 (out), 22 RXC (out), 23 DVDD33 (power), 24 TXC (in), 25 TXD0 (in), 26 TXD1 (in), 27 TXD2 (in), 28 TXD3 (in), 29 TXCTL (in), 30 MDC (in), 31 MDIO (io), 32 nc, 33 nc, 34 nc, 35 nc, 36 DVDD10 (power), 37 nc, 38 PHYRSTB (in), 39 LED_TX (out), 40 LED_RX (out), 41 CLK125 (out), 42 nc, 43 LED_DUPLEX/RXDLY (out), 44 LED_1000/PHY_AD1 (out), 45 DVDD10 (power), 46 nc, 47 nc, 48 LED_100 (out), 49 DVDD33 (out), 50 LED_10/PHY_AD0 (out), 51 nc, 52 nc, 53 nc, 54 nc, 55 nc, 56 nc, 57 nc, 58 ENSWREG (in), 59 AVDD10 (power), 60 AVDD33 (power), 61 CKXTAL1 (in), 62 CKXTAL2 (out), 63 VDDREG (power), 64 Rset

## IFC_SN65HVD234 SO8
designator MN16, comment SN65HVD234
CAN transceiver; REF: SN65HVD234D; DESIG: 3.3V CAN TRANCEIVER; BOI: SO8; DEV: SO08; FAB: TI; Right: 120; Bottom: 130; VAL: SN65HVD234
footprint SO-8
pins: 1 TXD (in), 2 GND (power), 3 VCC (power), 4 RXD (out), 5 VREF (out), 6 CANL, 7 CANH, 8 RS (in)
text: Rs; D; EN; R

## IFC_SP2526A SO8
designator MN17, comment SP2526A-2
USB Power Control Switch; DEV: CIS_SO08_01; FAB: SIPEX; TEMP: -40°C à 85°C; BOI: JEDEC MS-012 (narrow SO8); DESIG: Dual USB High-Side Power Switch; REF: SP2526A-2EN-L; Right: 70; Bottom: 90; RoHS: YES; VAL: SP2526A-2
footprint SO-8
pins: 1 ENA (in), 2 FLGA (oc), 3 FLGB (oc), 4 ENB (in), 5 OUTB (out), 6 GNG (power), 7 IN (power), 8 OUTA (out)

## IFC_USB3300
designator U5, comment USB3300EZK
Part Number: 10197
footprint QFN32
pins: 0 GNDFLAG (power), 1 GND (power), 2 GND (power), 3 CPEN (out), 4 VBUS (in), 5 ID, 6 VDDA3.3 (power), 7 DP, 8 DM, 9 RESET, 10 EXT_VBUS_DETECT (in), 11 NXT (in), 12 DIR (out), 13 STP (in), 14 CLKOUT (out), 15 VDD1.8 (power), 16 VDD3.3 (power), 17 DATA7 (io), 18 DATA6 (io), 19 DATA5 (io), 20 DATA4 (io), 21 DATA3 (io), 22 DATA2 (io), 23 DATA1 (io), 24 DATA0 (io), 25 VDD3.3 (power), 26 VDD1.8 (power), 27 XO, 28 XI, 29 VDDA1.8 (power), 30 VDDA3.3 (power), 31 VDDA3.3 (power), 32 RBIAS

## IFC_XPORT
designator U?
footprint XPORT
pins: 1 GND (power), 2 VCC (power), 3 RESET (in), 4 D_OUT (out), 5 D_IN (in), 6 CP1 (io), 7 CP2 (io), 8 CP3 (io), 9 SH1, 10 SH2

## IIC_MAX7300
designator U?, comment MAX7300AAI
footprint SSOP28
pins: 1 ISET, 2 GND (power), 3 GND (power), 4 AD0 (in), 5 P12 (io), 6 P13 (io), 7 P14 (io), 8 P15 (io), 9 P16 (io), 10 P17 (io), 11 P18 (io), 12 P19 (io), 13 P20 (io), 14 P21 (io), 15 P22 (io), 16 P23 (io), 17 P24 (io), 18 P25 (io), 19 P26 (io), 20 P27 (io), 21 P28 (io), 22 P29 (io), 23 P30 (io), 24 P31 (io), 25 SDA (io), 26 SCL (in), 27 AD1 (in), 28 VCC (power)

## IIC_PCA9536D
designator U?, comment PCA9536D
footprint SO-8
pins: 1 I/O_0 (io), 2 I/O_1 (io), 3 I/O_2 (io), 4 GND (power), 5 I/O_3 (io), 6 SCL (in), 7 SDA (io), 8 VCC (power)

## IIC_PCA9554D
designator U?
footprint SOIC16
pins: 1 A0 (in), 2 A1 (in), 3 A2 (in), 4 I/O 0 (io), 5 I/O 1 (io), 6 I/O 2 (io), 7 I/O 3 (io), 8 Vss (power), 9 I/O 4 (io), 10 I/O 5 (io), 11 I/O 6 (io), 12 I/O 7 (io), 13 ~{INT} (out), 14 SCL (in), 15 SDA (io), 16 Vdd (power)

## IIC_PCA9555D
designator U?
footprint SOIC24
pins: 1 ~{INT} (out), 2 A1 (in), 3 A2 (in), 4 I/O 0_0 (io), 5 I/O 0_1 (io), 6 I/O 0_2 (io), 7 I/O 0_3 (io), 8 I/O 0_4 (io), 9 I/O 0_5 (io), 10 I/O 0_6 (io), 11 I/O 0_7 (io), 12 Vss (power), 13 I/O 1_0 (io), 14 I/O 1_1 (io), 15 I/O 1_2 (io), 16 I/O 1_3 (io), 17 I/O 1_4 (io), 18 I/O 1_5 (io), 19 I/O 1_6 (io), 20 I/O 1_7 (io), 21 A0 (in), 22 SCL (in), 23 SDA (io), 24 Vdd (power)

## IVC102
designator U?
Transconductance amplifier
footprint SO-14
pins: 1, 2, 3, 4, 5, 6, 9, 10 Vo, 11, 12, 13 Dgnd, 14
2 alternate drawings of the same symbol
text: 60p; 30p; 10p

## JUMP3
designator Jmp?
footprint jump3
pins: 1, 2, 3
2 alternate drawings of the same symbol

## JUMPER
designator JP?, comment jumper
footprint jump
pins: 1 E1, 2 E2
2 alternate drawings of the same symbol

## L_CHOKE
designator L?
Inductor
footprint 1210
footprint 0805
footprint CMS_HM76-10
pins: 1, 2
2 alternate drawings of the same symbol

## L_CHOKE_DLCWxxx
designator L?, comment DLCWxx
Inductor (Maritex)
footprint CHOKE_DLCW-I (DLCW chokes 1...15uH (Maritex))
footprint CHOKE_DLCW-II (DLCW chokes 18..1500uH (Maritex))
pins: 1, 2
2 alternate drawings of the same symbol

## L_CHOKE_LCF322522
designator L?, comment LCF322522-10
Inductor (Maritex)
footprint 1210
footprint 0805
footprint CMS_HM76-10
footprint LCF322522 (chip inductor (Maritex))
pins: 1, 2
2 alternate drawings of the same symbol

## L_Current_transf_ASM10
designator Tr?, comment ASM10
TELMA ASM10 crrent transformer (www.elementy.pl)
footprint cur_traf_asm10 (current transformer 10A)
pins: 1, 2, 3 4, 4

## L_FERRITE_BEAD
designator FB?, comment Ferrite Bead
footprint 0805
footprint 1206
footprint 0603
pins: 1, 2
2 alternate drawings of the same symbol

## L_P26/16
designator T?
footprint P26/16
pins: 2, 3, 6, 7
2 alternate drawings of the same symbol

## L_POWER_INDUCTOR
designator L?, comment DLSD75-47
inductor
footprint IND_74477_L_XL
footprint IND_744561_L
footprint IND_WE-PD3S
footprint toroid_30
footprint choke_DLCSN136S (Maritex)
footprint choke_DLSD75 (Maritex)
pins: 1, 2
2 alternate drawings of the same symbol

## L_POWER_INDUCTOR_CSN136S
designator L?, comment DLCSN136S-100M
inductor
footprint choke_DLCSN136S (Maritex)
pins: 1, 2
2 alternate drawings of the same symbol

## L_POWER_INDUCTOR_CSS075F
designator L?, comment DLCSS075F-100M
inductor
footprint choke_DLSD75 (Maritex)
pins: 1, 2
2 alternate drawings of the same symbol

## L_POWER_INDUCTOR_CSS124
designator L?, comment DLCSS124P-100M
inductor
footprint choke_DLCSS124 (Maritex)
pins: 1, 2
2 alternate drawings of the same symbol

## L_POWER_INDUCTOR_DLCSN042C
designator L?, comment DLCSN042C-1R0M
inductor (Maritex)
footprint L_DLCSN042C (Choke Power CSN042C)
pins: 1, 2
2 alternate drawings of the same symbol

## L_POWER_INDUCTOR_TOROID
designator L?, comment 10uH/20A
inductor
footprint toroid_30
footprint L_toroid_V
pins: 1, 2
2 alternate drawings of the same symbol

## L_POWER_INDUCTOR_TOROID_HC
designator L?, comment 10uH/40A
high current inductor
footprint L_TOROID_V_HC
pins: 1, 2, 3, 4, 5, 6, 7, 8
2 alternate drawings of the same symbol

## L_POWER_TRAFO_3W
designator Tr?
footprint power_trafo_805-574
pins: 1, 2, 3, 4, 5, 8
2 alternate drawings of the same symbol

## L_PULSE_TRAFO
designator Tr?
footprint pulse_trafo_10
footprint pulse_Trafo_6
pins: 1, 2, 3, 4
2 alternate drawings of the same symbol

## L_PULSE_TRAFO_X2
designator Tr?
footprint Pulse_Trafo_6_x2
footprint Pulse_Trafo_10_x2
pins: 1, 2, 3, 4, 5, 6
2 alternate drawings of the same symbol

## LCD_HD44780
designator DISP?
LCD character display socket
footprint SIP14
pins: 1 GND, 2 VCC, 3 CONTR, 4 RS, 5 R/W, 6 E, 7 D0, 8 D1, 9 D2, 10 D3, 11 D4, 12 D5, 13 D6, 14 D7
2 alternate drawings of the same symbol

## LCD_HD44780_LED
designator DISP?
LCD character display socket with backlight
footprint SIP16 (Footprint not found)
footprint IDC16
footprint IDC_16_male (IDC 2x8 PCB male connector)
footprint LCD_HMC16225SY
pins: 1 GND, 2 VCC, 3 CONTR, 4 RS, 5 R/W, 6 E, 7 D0, 8 D1, 9 D2, 10 D3, 11 D4, 12 D5, 13 D6, 14 D7, 15 A, 16 K
2 alternate drawings of the same symbol

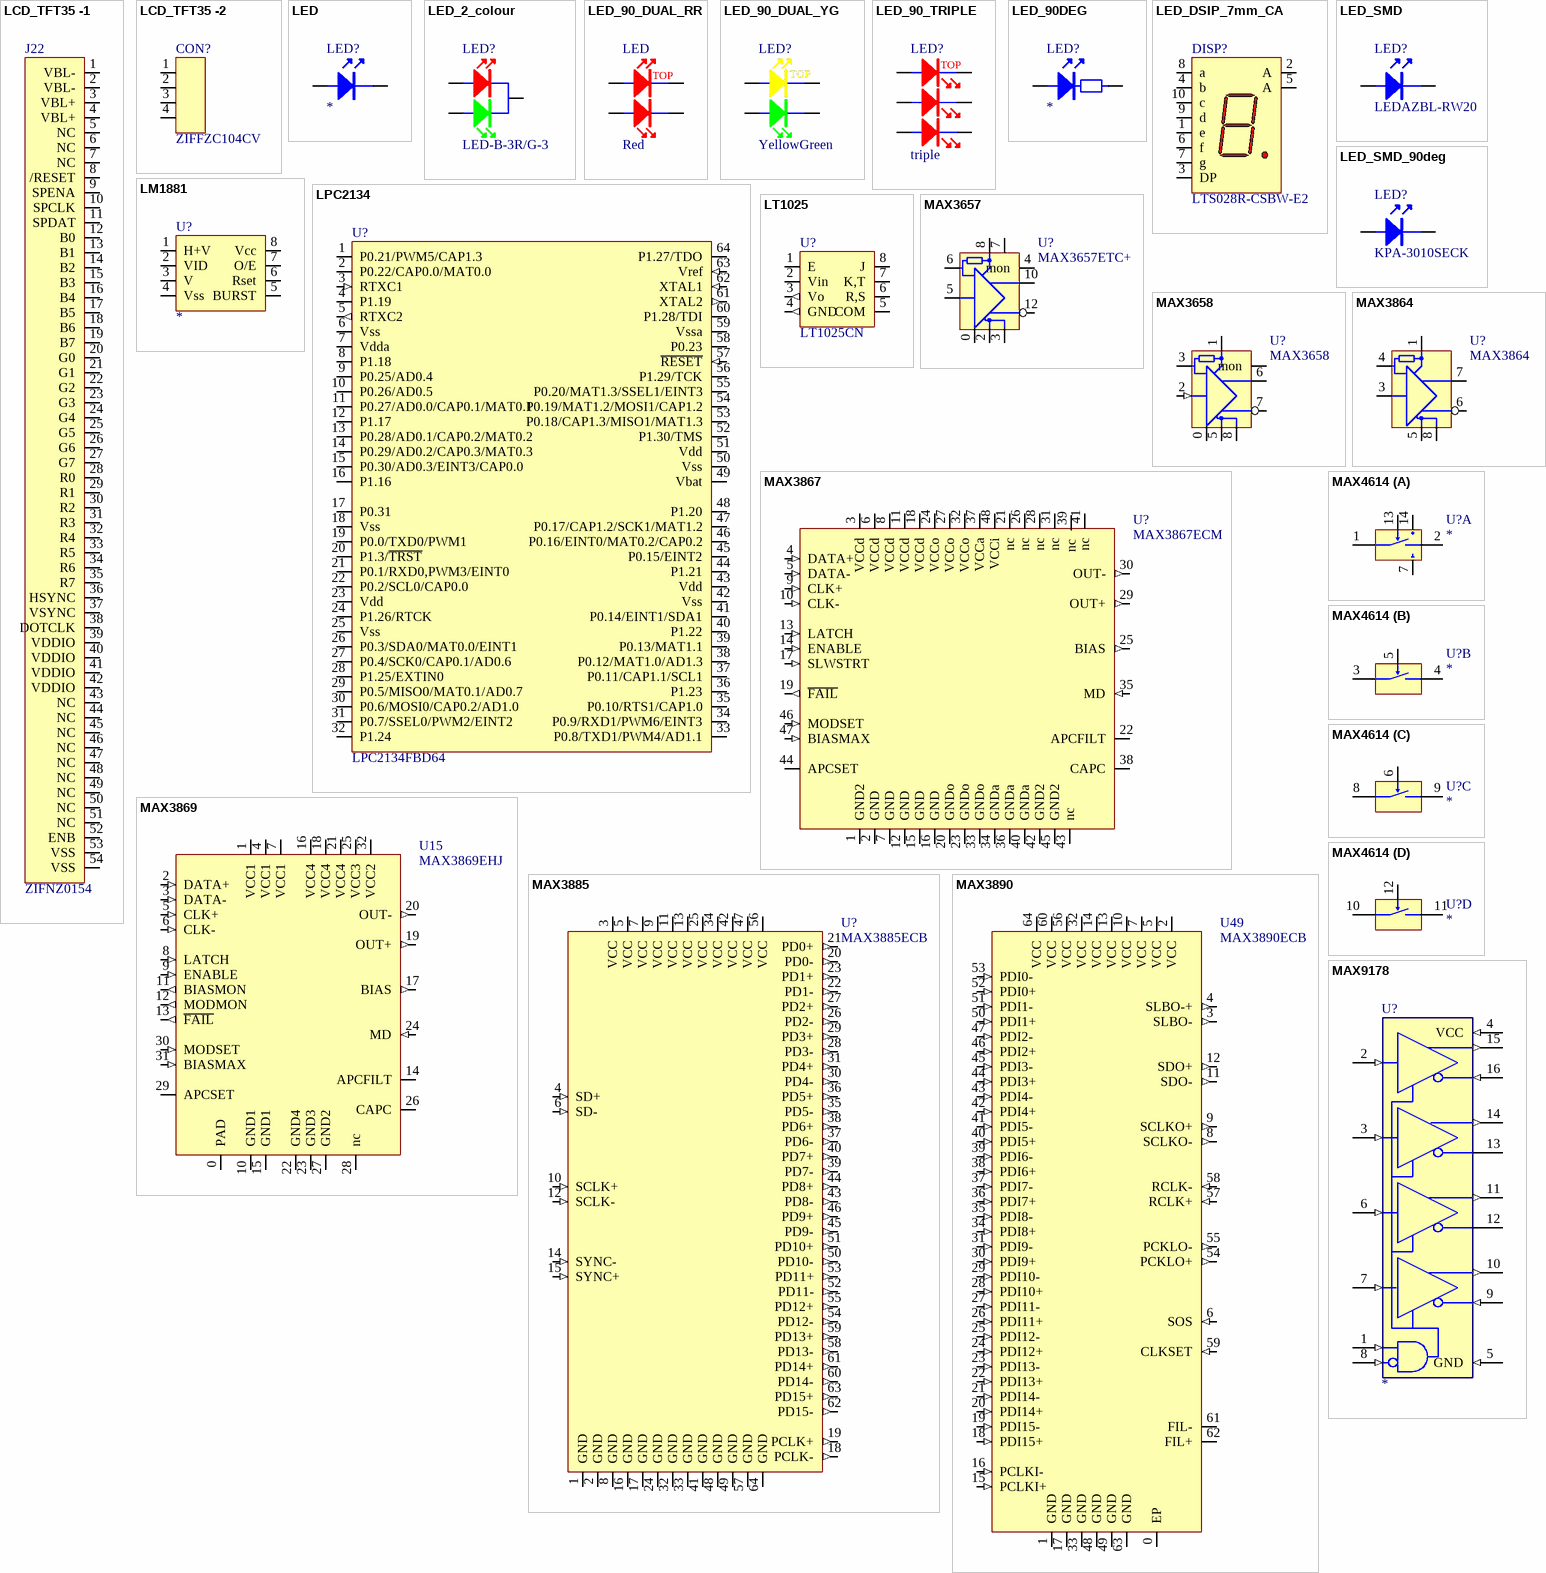
[diagram p28: symbols LCD_TFT35 -1 to MAX9178]

## LCD_TFT35 -1
designator J22, comment ZIFNZ0154
54 Pin Conector
footprint ZIFNZ0154
pins: 1 VBL-, 2 VBL-, 3 VBL+, 4 VBL+, 5 NC, 6 NC, 7 NC, 8 /RESET, 9 SPENA, 10 SPCLK, 11 SPDAT, 12 B0, 13 B1, 14 B2, 15 B3, 16 B4, 17 B5, 18 B6, 19 B7, 20 G0, 21 G1, 22 G2, 23 G3, 24 G4, 25 G5, 26 G6, 27 G7, 28 R0, 29 R1, 30 R2, 31 R3, 32 R4, 33 R5, 34 R6, 35 R7, 36 HSYNC, 37 VSYNC, 38 DOTCLK, 39 VDDIO, 40 VDDIO, 41 VDDIO, 42 VDDIO, 43 NC, 44 NC, 45 NC, 46 NC, 47 NC, 48 NC, 49 NC, 50 NC, 51 NC, 52 ENB, 53 VSS, 54 VSS

## LCD_TFT35 -2
designator CON?, comment ZIFFZC104CV
Kyocera ZIF 1mm conencteor (Farnell)
footprint ZIFFZC104CV
pins: 1, 2, 3, 4

## LED
designator LED?
LED
footprint LED
footprint LED_5
footprint LED_2x5
footprint LED_2.5x5 (L-173HD/GD/ID)
footprint LED_3x3 (L-704ID/GD/YD (TME))
footprint LED_5x5
pins: A, K
2 alternate drawings of the same symbol

## LED_2_colour
designator LED?, comment LED-B-3R/G-3
footprint led3mm_dual_color (dual LED 3mm)
footprint LED5mm_dual_color (dual LED 5mm)
pins: AG, AR, K

## LED_90_DUAL_RR
designator LED, comment Red
footprint LED_90_dual
pins: A1, A2, K1, K2
text: TOP

## LED_90_DUAL_YG
designator LED?, comment YellowGreen
footprint LED_90_dual
pins: A1, A2, K1, K2
text: TOP

## LED_90_TRIPLE
designator LED?, comment triple
mentor 1882.2221 (Farnell 621810)
footprint LED_90_triple
pins: A1, A2, A3, K1, K2, K3
text: TOP

## LED_90DEG
designator LED?
LED+resistor
footprint LED_90deg
pins: A, K
2 alternate drawings of the same symbol

## LED_DSIP_7mm_CA
designator DISP?, comment LTS028R-CSBW-E2
7 mm 7-Segment Display: CA (maritex); Package Information: Latest Revision: 19-Feb-2002; Min. Intensity: 360 ucd; Note: IF = 5 mA; Note: Pins 1 and 6 are redundant Anodes.; Datasheet: Latest Revision: 19-Feb-2002; Package Reference: A; Publisher: Altium Limited; Colour: HE Red
footprint LED_DISP_LTS028R
pins: 1 e "Cathode", 2 A "Anode", 3 DP "Cathode", 4 b "Cathode", 5 A "Anode", 6 f "Cathode", 7 g "Cathode", 8 a "Cathode", 9 d "Cathode", 10 c "Cathode"

## LED_SMD
designator LED?, comment LEDAZBL-RW20
LED
footprint LED_1206
footprint LED_0805
footprint led_0603
footprint LEDAZBL-RW20
pins: A, K
2 alternate drawings of the same symbol

## LED_SMD_90deg
designator LED?, comment KPA-3010SECK
LED (TME)
footprint LED_KPA3010
pins: A, K
2 alternate drawings of the same symbol

## LM1881
designator U?
Sync separator
footprint DIP8
pins: 1 H+V, 2 VID, 3 V, 4 Vss, 5 BURST, 6 Rset, 7 O/E, 8 Vcc
2 alternate drawings of the same symbol

## LPC2134
designator U?, comment LPC2134FBD64
footprint LQFP64
pins: 1 P0.21/PWM5/CAP1.3 (io), 2 P0.22/CAP0.0/MAT0.0 (io), 3 RTXC1 (in), 4 P1.19 (io), 5 RTXC2 (out), 6 Vss (power), 7 Vdda (power), 8 P1.18 (io), 9 P0.25/AD0.4 (io), 10 P0.26/AD0.5 (io), 11 P0.27/AD0.0/CAP0.1/MAT0.1 (io), 12 P1.17 (io), 13 P0.28/AD0.1/CAP0.2/MAT0.2 (io), 14 P0.29/AD0.2/CAP0.3/MAT0.3 (io), 15 P0.30/AD0.3/EINT3/CAP0.0 (io), 16 P1.16 (io), 17 P0.31 (io), 18 Vss (power), 19 P0.0/TXD0/PWM1 (io), 20 P1.3/~{TRST} (io), 21 P0.1/RXD0,PWM3/EINT0 (io), 22 P0.2/SCL0/CAP0.0 (io), 23 Vdd (power), 24 P1.26/RTCK (io), 25 Vss (power), 26 P0.3/SDA0/MAT0.0/EINT1 (io), 27 P0.4/SCK0/CAP0.1/AD0.6 (io), 28 P1.25/EXTIN0 (io), 29 P0.5/MISO0/MAT0.1/AD0.7 (io), 30 P0.6/MOSI0/CAP0.2/AD1.0 (io), 31 P0.7/SSEL0/PWM2/EINT2 (io), 32 P1.24 (io), 33 P0.8/TXD1/PWM4/AD1.1 (io), 34 P0.9/RXD1/PWM6/EINT3 (io), 35 P0.10/RTS1/CAP1.0 (io), 36 P1.23 (io), 37 P0.11/CAP1.1/SCL1 (io), 38 P0.12/MAT1.0/AD1.3 (io), 39 P0.13/MAT1.1 (io), 40 P1.22 (io), 41 P0.14/EINT1/SDA1 (io), 42 Vss (power), 43 Vdd (power), 44 P1.21 (io), 45 P0.15/EINT2 (io), 46 P0.16/EINT0/MAT0.2/CAP0.2 (io), 47 P0.17/CAP1.2/SCK1/MAT1.2 (io), 48 P1.20 (io), 49 Vbat (power), 50 Vss (power), 51 Vdd (power), 52 P1.30/TMS (io), 53 P0.18/CAP1.3/MISO1/MAT1.3 (io), 54 P0.19/MAT1.2/MOSI1/CAP1.2 (io), 55 P0.20/MAT1.3/SSEL1/EINT3 (io), 56 P1.29/TCK (io), 57 ~{RESET} (in), 58 P0.23 (io), 59 Vssa (io), 60 P1.28/TDI (io), 61 XTAL2 (out), 62 XTAL1 (in), 63 Vref (in), 64 P1.27/TDO (io)

## LT1025
designator U?, comment LT1025CN
footprint dip-8
pins: 1 E, 2 Vin (power), 3 Vo (out), 4 GND (out), 5 COM, 6 R,S, 7 K,T, 8 J

## MAX3657
designator U?, comment MAX3657ETC+
155Mbps Low-Noise Transimpedance  Amplifier
pins: 0 pad, 2 GND (power), 3 out+ (power), 4 mon (power), 5 in (power), 6 fil (power), 7 Vcc (power), 8 Vcc (power), 10 out+ (power), 12 out- (power)

## MAX3658
designator U?
622Mbps, Low-Noise, High-Gain  Transimpedance Preamplifier
footprint TDFN8
pins: 0 pad, 1 Vcc (power), 2 in (in), 3 fil, 4 mon, 5 GND (power), 6 out+ (power), 7 out- (power), 8 out+ (power)

## MAX3864
designator U?
2.5Gbps, +3V to +5.5V, Wide Dynamic Range  Transimpedance Preamplifier
footprint SO-8 (Footprint not found)
pins: 1 Vcc (power), 3 in (power), 4 fil (power), 5 GND (power), 6 out- (power), 7 out+ (power), 8 out+ (power)

## MAX3867
designator U?, comment MAX3867ECM
+3.3V, 2.5Gbps SDH/SONET Laser Driver
footprint TQFP48
pins: 1 GND2 (power), 2 GND (power), 3 VCCd (power), 4 DATA+ (in), 5 DATA- (in), 6 VCCd (power), 7 GND (power), 8 VCCd (power), 9 CLK+ (in), 10 CLK- (in), 11 VCCd (power), 12 GND (power), 13 LATCH (in), 14 ENABLE (in), 15 GND (power), 16 GND (power), 17 SLWSTRT (in), 18 VCCd (power), 19 ~{FAIL} (out), 20 GNDo, 21 nc, 22 APCFILT, 23 GNDo, 24 VCCo, 25 BIAS (out), 26 nc, 27 VCCo, 28 nc, 29 OUT+ (out), 30 OUT- (out), 31 nc, 32 VCCo, 33 GNDo, 34 GNDa (power), 35 MD (in), 36 GNDa (power), 37 VCCa (power), 38 CAPC, 39 nc, 40 GNDa (power), 41 nc, 42 GND2 (power), 43 nc, 44 APCSET, 45 GND2 (power), 46 MODSET (in), 47 BIASMAX (in), 48 VCCi (power)

## MAX3869
designator U15, comment MAX3869EHJ
+3.3V, 2.5Gbps SDH/SONET Laser Driver
footprint LTQFP32
pins: 0 PAD, 1 VCC1 (power), 2 DATA+ (in), 3 DATA- (in), 4 VCC1 (power), 5 CLK+ (in), 6 CLK- (in), 7 VCC1 (power), 8 LATCH (in), 9 ENABLE (in), 10 GND1 (power), 11 BIASMON (out), 12 MODMON (out), 13 ~{FAIL} (out), 14 APCFILT, 15 GND1 (power), 16 VCC4 (power), 17 BIAS (out), 18 VCC4 (power), 19 OUT+ (out), 20 OUT- (out), 21 VCC4 (power), 22 GND4 (power), 23 GND3 (power), 24 MD (in), 25 VCC3 (power), 26 CAPC, 27 GND2 (power), 28 nc, 29 APCSET, 30 MODSET (in), 31 BIASMAX (in), 32 VCC2 (power)

## MAX3885
designator U?, comment MAX3885ECB
+3.3V, 2.488Gbps,  1:16 Deserializer with LVDS Outputs
footprint TQFP64-MAX
pins: 1 GND (power), 2 GND (power), 3 VCC (power), 4 SD+ (in), 5 VCC (power), 6 SD- (in), 7 VCC (power), 8 GND (power), 9 VCC (power), 10 SCLK+ (in), 11 VCC (power), 12 SCLK- (in), 13 VCC (power), 14 SYNC- (in), 15 SYNC+ (in), 16 GND (power), 17 GND (power), 18 PCLK- (out), 19 PCLK+ (out), 20 PD0- (out), 21 PD0+ (out), 22 PD1- (out), 23 PD1+ (out), 24 GND (power), 25 VCC (power), 26 PD2- (out), 27 PD2+ (out), 28 PD3- (out), 29 PD3+ (out), 30 PD4- (out), 31 PD4+ (out), 32 GND (power), 33 GND (power), 34 VCC (power), 35 PD5- (out), 36 PD5+ (out), 37 PD6- (out), 38 PD6+ (out), 39 PD7- (out), 40 PD7+ (out), 41 GND (power), 42 VCC (power), 43 PD8- (out), 44 PD8+ (out), 45 PD9- (out), 46 PD9+ (out), 47 VCC (power), 48 GND (power), 49 GND (power), 50 PD10- (out), 51 PD10+ (out), 52 PD11- (out), 53 PD11+ (out), 54 PD12- (out), 55 PD12+ (out), 56 VCC (power), 57 GND (power), 58 PD13- (out), 59 PD13+ (out), 60 PD14- (out), 61 PD14+ (out), 62 PD15- (out), 63 PD15+ (out), 64 GND (power)

## MAX3890
designator U49, comment MAX3890ECB
+3.3V, 2.5Gbps,  16:1 Serializer  with Clock Synthesis and LVDS Inputs
footprint TQFP64-PAD
pins: 0 EP, 1 GND (power), 2 VCC (power), 3 SLBO- (out), 4 SLBO-+ (out), 5 VCC (power), 6 SOS (in), 7 VCC (power), 8 SCLKO- (out), 9 SCLKO+ (out), 10 VCC (power), 11 SDO- (out), 12 SDO+ (out), 13 VCC (power), 14 VCC (power), 15 PCLKI+ (in), 16 PCLKI- (in), 17 GND (power), 18 PDI15+ (in), 19 PDI15- (in), 20 PDI14+ (in), 21 PDI14- (in), 22 PDI13+ (in), 23 PDI13- (in), 24 PDI12+ (in), 25 PDI12- (in), 26 PDI11+ (in), 27 PDI11- (in), 28 PDI10+ (in), 29 PDI10- (in), 30 PDI9+ (in), 31 PDI9- (in), 32 VCC (power), 33 GND (power), 34 PDI8+ (in), 35 PDI8- (in), 36 PDI7+ (in), 37 PDI7- (in), 38 PDI6+ (in), 39 PDI6- (in), 40 PDI5+ (in), 41 PDI5- (in), 42 PDI4+ (in), 43 PDI4- (in), 44 PDI3+ (in), 45 PDI3- (in), 46 PDI2+ (in), 47 PDI2- (in), 48 GND (power), 49 GND (power), 50 PDI1+ (in), 51 PDI1- (in), 52 PDI0+ (in), 53 PDI0- (in), 54 PCKLO+ (out), 55 PCKLO- (out), 56 VCC (power), 57 RCLK+ (in), 58 RCLK- (in), 59 CLKSET (in), 60 VCC (power), 61 FIL-, 62 FIL+, 63 GND (power), 64 VCC (power)

## MAX4614
designator U?
footprint SO-16
part A pins: 1, 2, 7, 13, 14
part B pins: 3, 4, 5
part C pins: 6, 8, 9
part D pins: 10, 11, 12
2 alternate drawings of the same symbol

## MAX9178
designator U?
footprint TSSOP-16
pins: 1 (in), 2 (in), 3 (in), 4 VCC (in), 5 GND (in), 6 (in), 7 (in), 8 (in), 9 (in), 10 (out), 11 (out), 12, 13 (power), 14 (out), 15 (out), 16 (in)
2 alternate drawings of the same symbol

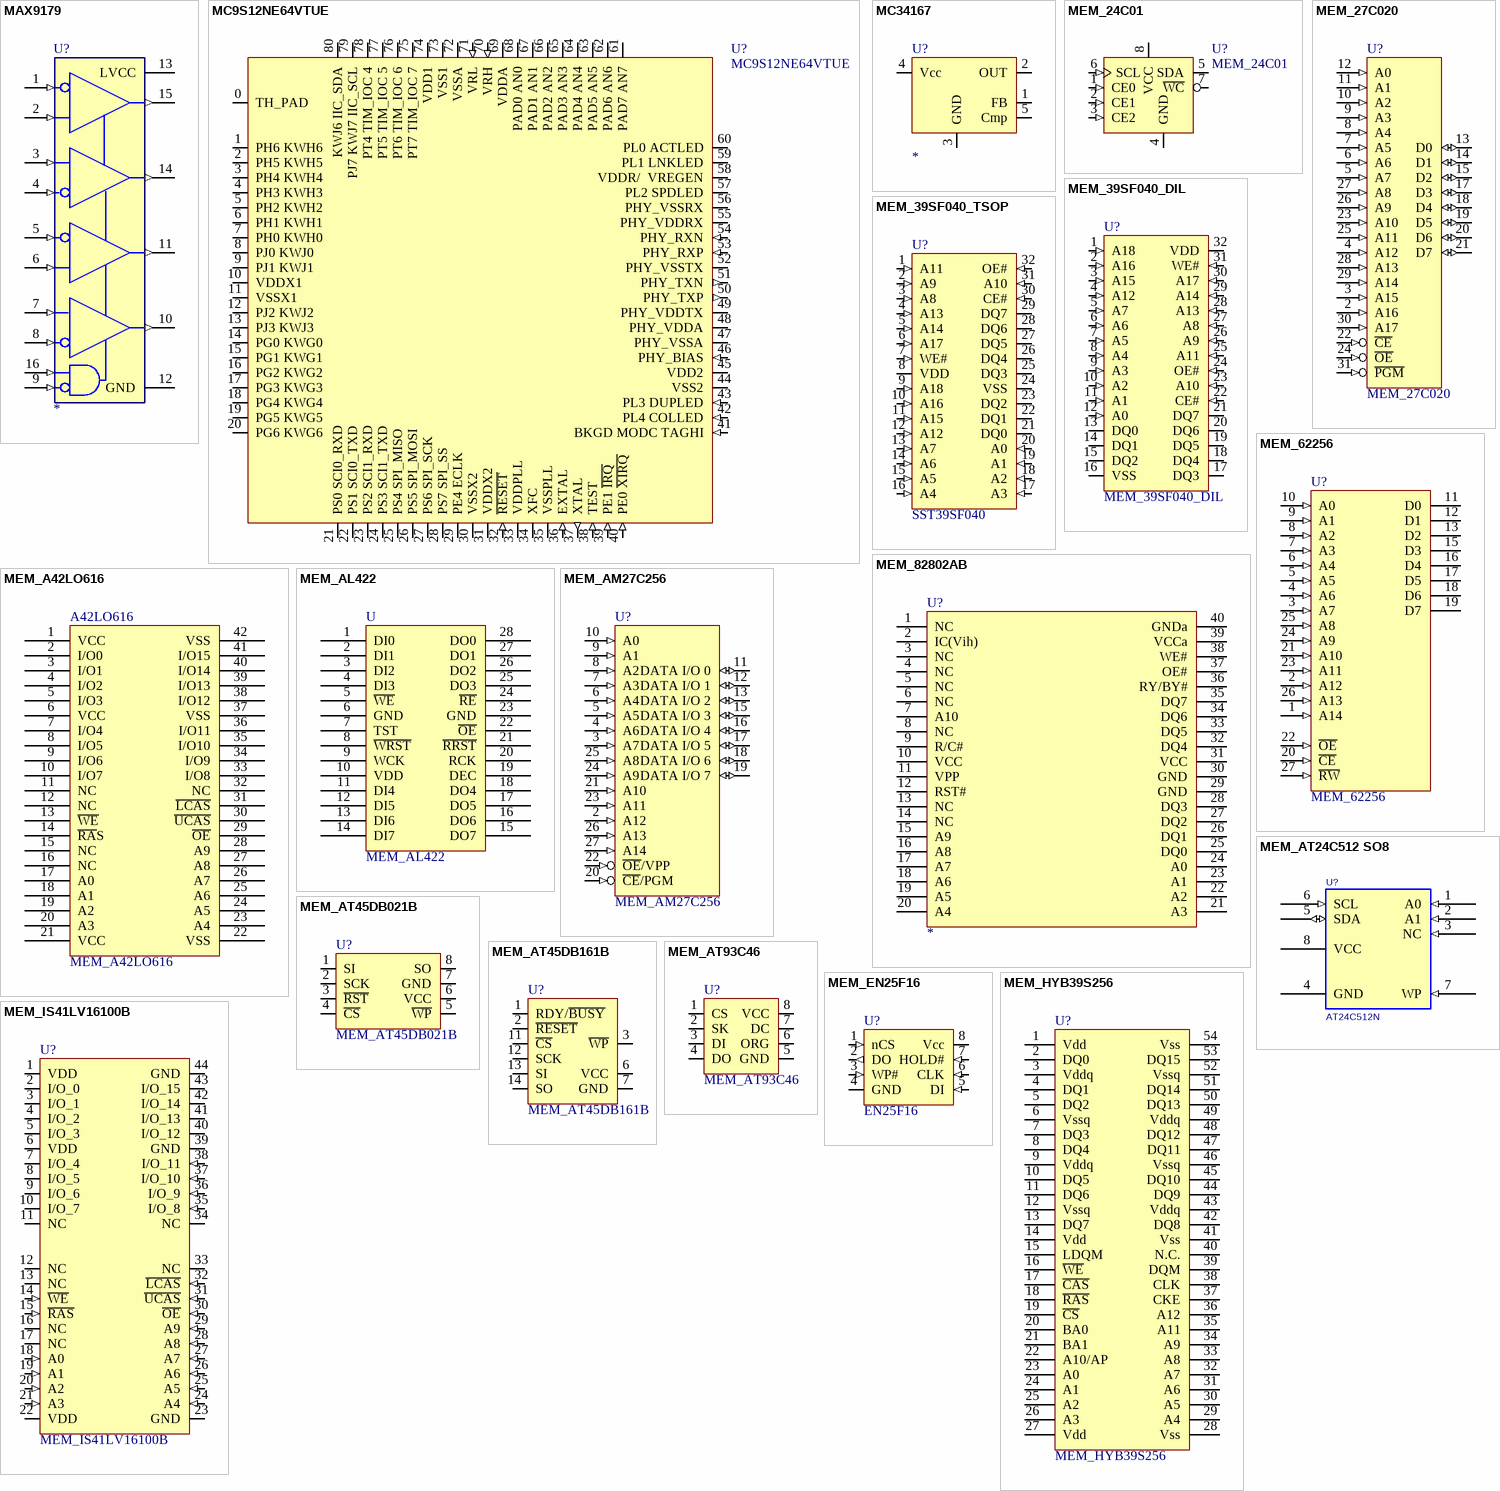
[diagram p29: symbols MAX9179 to MEM_IS41LV16100B]

## MAX9179
designator U?
footprint TSSOP-16
pins: 1 (in), 2 (in), 3 (in), 4 (in), 5 (in), 6 (in), 7 (in), 8 (in), 9 (in), 10 (out), 11 (out), 12 GND, 13 LVCC (power), 14 (out), 15 (out), 16 (in)
2 alternate drawings of the same symbol

## MC9S12NE64VTUE
designator U?
footprint LQFP80_TH_PAD
pins: 0 TH_PAD (power), 1 PH6 KWH6 (io), 2 PH5 KWH5 (io), 3 PH4 KWH4 (io), 4 PH3 KWH3 (io), 5 PH2 KWH2 (io), 6 PH1 KWH1 (io), 7 PH0 KWH0 (io), 8 PJ0 KWJ0 (io), 9 PJ1 KWJ1 (io), 10 VDDX1 (power), 11 VSSX1 (power), 12 PJ2 KWJ2 (io), 13 PJ3 KWJ3 (io), 14 PG0 KWG0 (io), 15 PG1 KWG1 (io), 16 PG2 KWG2 (io), 17 PG3 KWG3 (io), 18 PG4 KWG4 (io), 19 PG5 KWG5 (io), 20 PG6 KWG6 (io), 21 PS0 SCI0_RXD (io), 22 PS1 SCI0_TXD (io), 23 PS2 SCI1_RXD (io), 24 PS3 SCI1_TXD (io), 25 PS4 SPI_MISO (io), 26 PS5 SPI_MOSI (io), 27 PS6 SPI_SCK (io), 28 PS7 SPI_SS (io), 29 PE4 ECLK (io), 30 VSSX2 (power), 31 VDDX2 (power), 32 ~{RESET} (in), 33 VDDPLL (power), 34 XFC, 35 VSSPLL (power), 36 EXTAL (in), 37 XTAL (out), 38 TEST (in), 39 PE1 ~{IRQ} (in), 40 PE0 ~{XIRQ} (in), 41 BKGD MODC TAGHI (in), 42 PL4 COLLED (in), 43 PL3 DUPLED (in), 44 VSS2 (power), 45 VDD2 (power), 46 PHY_BIAS (in), 47 PHY_VSSA (power), 48 PHY_VDDA (power), 49 PHY_VDDTX (power), 50 PHY_TXP (out), 51 PHY_TXN (out), 52 PHY_VSSTX (power), 53 PHY_RXP (in), 54 PHY_RXN (in), 55 PHY_VDDRX (power), 56 PHY_VSSRX (power), 57 PL2 SPDLED (io), 58 VDDR/  VREGEN (power), 59 PL1 LNKLED (io), 60 PL0 ACTLED (io), 61 PAD7 AN7 (io), 62 PAD6 AN6 (io), 63 PAD5 AN5 (io), 64 PAD4 AN4 (io), 65 PAD3 AN3 (io), 66 PAD2 AN2 (io), 67 PAD1 AN1 (io), 68 PAD0 AN0 (io), 69 VDDA (power), 70 VRH (in), 71 VRL (in), 72 VSSA (power), 73 VSS1 (power), 74 VDD1 (power), 75 PT7 TIM_IOC 7 (io), 76 PT6 TIM_IOC 6 (io), 77 PT5 TIM_IOC 5 (io), 78 PT4 TIM_IOC 4 (io), 79 PJ7 KWJ7 IIC_SCL (io), 80 KWJ6 IIC_SDA (io)

## MC34167
designator U?
footprint TO220-5
pins: 1 FB, 2 OUT, 3 GND, 4 Vcc, 5 Cmp
2 alternate drawings of the same symbol

## MEM_24C01
designator U?
Serial 2K(256x8) EEPROM
footprint DIP-8
footprint SO-8
pins: 1 CE0 (in), 2 CE1 (in), 3 CE2 (in), 4 GND (power), 5 SDA (io), 6 SCL (in), 7 ~{WC}, 8 VCC (power)
2 alternate drawings of the same symbol

## MEM_27C020
designator U?
2 MEGABIT CMOS EPROM
footprint DIP-32
footprint DIP_32_PLUG
pins: 2 A16 (in), 3 A15 (in), 4 A12 (in), 5 A7 (in), 6 A6 (in), 7 A5 (in), 8 A4 (in), 9 A3 (in), 10 A2 (in), 11 A1 (in), 12 A0 (in), 13 D0 (io), 14 D1 (io), 15 D2 (io), 17 D3 (io), 18 D4 (io), 19 D5 (io), 20 D6 (io), 21 D7 (io), 22 ~{CE} (in), 23 A10 (in), 24 ~{OE} (in), 25 A11 (in), 26 A9 (in), 27 A8 (in), 28 A13 (in), 29 A14 (in), 30 A17 (in), 31 ~{PGM} (in)
2 alternate drawings of the same symbol

## MEM_39SF040_DIL
designator U?
footprint PDIP32
pins: 1 A18 (in), 2 A16 (in), 3 A15 (in), 4 A12 (in), 5 A7 (in), 6 A6 (in), 7 A5 (in), 8 A4 (in), 9 A3 (in), 10 A2 (in), 11 A1 (in), 12 A0 (in), 13 DQ0 (io), 14 DQ1 (io), 15 DQ2 (io), 16 VSS (power), 17 DQ3 (io), 18 DQ4 (io), 19 DQ5 (io), 20 DQ6 (io), 21 DQ7 (io), 22 CE# (in), 23 A10 (in), 24 OE# (in), 25 A11 (in), 26 A9 (in), 27 A8 (in), 28 A13 (in), 29 A14 (in), 30 A17 (in), 31 WE# (in), 32 VDD (power)

## MEM_39SF040_TSOP
designator U?, comment SST39SF040
footprint TSOP32-1
pins: 1 A11 (in), 2 A9 (in), 3 A8 (in), 4 A13 (in), 5 A14 (in), 6 A17 (in), 7 WE# (in), 8 VDD (power), 9 A18 (in), 10 A16 (in), 11 A15 (in), 12 A12 (in), 13 A7 (in), 14 A6 (in), 15 A5 (in), 16 A4 (in), 17 A3 (in), 18 A2 (in), 19 A1 (in), 20 A0 (in), 21 DQ0 (io), 22 DQ1 (io), 23 DQ2 (io), 24 VSS (power), 25 DQ3 (io), 26 DQ4 (io), 27 DQ5 (io), 28 DQ6 (io), 29 DQ7 (io), 30 CE# (in), 31 A10 (in), 32 OE# (in)

## MEM_62256
designator U?
32KB static SRAM
footprint TSOP28
footprint SOJ28
pins: 1 A14 (in), 2 A12 (in), 3 A7 (in), 4 A6 (in), 5 A5 (in), 6 A4 (in), 7 A3 (in), 8 A2 (in), 9 A1 (in), 10 A0 (in), 11 D0 (hiz), 12 D1 (hiz), 13 D2 (hiz), 15 D3 (hiz), 16 D4 (hiz), 17 D5 (hiz), 18 D6 (hiz), 19 D7 (hiz), 20 ~{CE} (in), 21 A10 (in), 22 ~{OE} (in), 23 A11 (in), 24 A9 (in), 25 A8 (in), 26 A13 (in), 27 ~{RW} (in)
2 alternate drawings of the same symbol

## MEM_82802AB
designator U?
footprint TSOP40
pins: 1 NC, 2 IC(Vih), 3 NC, 4 NC, 5 NC, 6 NC, 7 A10, 8 NC, 9 R/C#, 10 VCC, 11 VPP, 12 RST#, 13 NC, 14 NC, 15 A9, 16 A8, 17 A7, 18 A6, 19 A5, 20 A4, 21 A3, 22 A2, 23 A1, 24 A0, 25 DQ0, 26 DQ1, 27 DQ2, 28 DQ3, 29 GND, 30 GND, 31 VCC, 32 DQ4, 33 DQ5, 34 DQ6, 35 DQ7, 36 RY/BY#, 37 OE#, 38 WE#, 39 VCCa, 40 GNDa
2 alternate drawings of the same symbol

## MEM_A42LO616
designator A42LO616
footprint SOJ42
pins: 1 VCC, 2 I/O0, 3 I/O1, 4 I/O2, 5 I/O3, 6 VCC, 7 I/O4, 8 I/O5, 9 I/O6, 10 I/O7, 11 NC, 12 NC, 13 ~{WE}, 14 ~{RA}S, 15 NC, 16 NC, 17 A0, 18 A1, 19 A2, 20 A3, 21 VCC, 22 VSS, 23 A4, 24 A5, 25 A6, 26 A7, 27 A8, 28 A9, 29 ~{OE}, 30 ~{UCAS}, 31 ~{LCAS}, 32 NC, 33 I/O8, 34 I/O9, 35 I/O10, 36 I/O11, 37 VSS, 38 I/O12, 39 I/O13, 40 I/O14, 41 I/O15, 42 VSS
2 alternate drawings of the same symbol

## MEM_AL422
designator U
video frame memory
footprint SOP28
pins: 1 DI0, 2 DI1, 3 DI2, 4 DI3, 5 ~{WE}, 6 GND, 7 TST, 8 ~{WRST}, 9 WCK, 10 VDD, 11 DI4, 12 DI5, 13 DI6, 14 DI7, 15 DO7, 16 DO6, 17 DO5, 18 DO4, 19 DEC, 20 RCK, 21 ~{RRST}, 22 ~{OE}, 23 GND, 24 ~{RE}, 25 DO3, 26 DO2, 27 DO1, 28 DO0
2 alternate drawings of the same symbol

## MEM_AM27C256
designator U?
8-BIT EPROM FAMILY
footprint DIP-28
pins: 2 A12 (in), 3 A7 (in), 4 A6 (in), 5 A5 (in), 6 A4 (in), 7 A3 (in), 8 A2 (in), 9 A1 (in), 10 A0 (in), 11 DATA I/O 0 (io), 12 DATA I/O 1 (io), 13 DATA I/O 2 (io), 15 DATA I/O 3 (io), 16 DATA I/O 4 (io), 17 DATA I/O 5 (io), 18 DATA I/O 6 (io), 19 DATA I/O 7 (io), 20 ~{CE}/PGM (in), 21 A10 (in), 22 ~{OE}/VPP (in), 23 A11 (in), 24 A9 (in), 25 A8 (in), 26 A13 (in), 27 A14 (in)
2 alternate drawings of the same symbol

## MEM_AT24C512 SO8
designator U?, comment VAL: AT24C512N  (hidden comment: AT24C512 SO8)
DEV: SOIC8; FAB: ATMEL; TEMP: -40°C à 85°C; DESIG: TWO WIRES SERIAL EEPROM; REF: AT24C512N-10SU-2.7; Right: 70; Bottom: 80; BOI: SO8
footprint SO-8
pins: 1 A0 (in), 2 A1 (in), 3 NC (in), 4 GND (power), 5 SDA (io), 6 SCL (in), 7 WP (in), 8 VCC (power)

## MEM_AT45DB021B
designator U?
SERIAL FLASH
footprint SO-8
pins: 1 SI, 2 SCK, 3 ~{RST}, 4 ~{CS}, 5 ~{WP}, 6 VCC, 7 GND, 8 SO
2 alternate drawings of the same symbol

## MEM_AT45DB161B
designator U?
serial data FLASH
footprint TSOP28-1
footprint SOIC28
pins: 1 RDY/~{BUSY}, 2 ~{RESET}, 3 ~{WP}, 6 VCC, 7 GND, 11 ~{CS}, 12 SCK, 13 SI, 14 SO
2 alternate drawings of the same symbol

## MEM_AT93C46
designator U?
SERIAL EEPROM
footprint SO-8
footprint DIP-8
pins: 1 CS, 2 SK, 3 DI, 4 DO, 5 GND, 6 ORG, 7 DC, 8 VCC
2 alternate drawings of the same symbol

## MEM_EN25F16
designator U?, comment EN25F16
FLASH (maritex)
footprint SO-8L
pins: 1 nCS (in), 2 DO (out), 3 WP# (in), 4 GND, 5 DI (in), 6 CLK (in), 7 HOLD# (in), 8 Vcc
2 alternate drawings of the same symbol

## MEM_HYB39S256
designator U?
SDRAM memory
footprint TSOP54
pins: 1 Vdd, 2 DQ0, 3 Vddq, 4 DQ1, 5 DQ2, 6 Vssq, 7 DQ3, 8 DQ4, 9 Vddq, 10 DQ5, 11 DQ6, 12 Vssq, 13 DQ7, 14 Vdd, 15 LDQM, 16 ~{WE}, 17 ~{CAS}, 18 ~{RAS}, 19 ~{CS}, 20 BA0, 21 BA1, 22 A10/AP, 23 A0, 24 A1, 25 A2, 26 A3, 27 Vdd, 28 Vss, 29 A4, 30 A5, 31 A6, 32 A7, 33 A8, 34 A9, 35 A11, 36 A12, 37 CKE, 38 CLK, 39 DQM, 40 N.C., 41 Vss, 42 DQ8, 43 Vddq, 44 DQ9, 45 DQ10, 46 Vssq, 47 DQ11, 48 DQ12, 49 Vddq, 50 DQ13, 51 DQ14, 52 Vssq, 53 DQ15, 54 Vss
2 alternate drawings of the same symbol

## MEM_IS41LV16100B
designator U?
footprint TSOP44-II
pins: 1 VDD (power), 2 I/O_0 (io), 3 I/O_1 (io), 4 I/O_2 (io), 5 I/O_3 (io), 6 VDD (power), 7 I/O_4 (io), 8 I/O_5 (io), 9 I/O_6 (io), 10 I/O_7 (io), 11 NC, 12 NC, 13 NC, 14 ~{WE} (in), 15 ~{RAS} (in), 16 NC, 17 NC, 18 A0 (in), 19 A1 (in), 20 A2 (in), 21 A3 (in), 22 VDD (power), 23 GND (power), 24 A4 (in), 25 A5 (in), 26 A6 (in), 27 A7 (in), 28 A8 (in), 29 A9 (in), 30 ~{OE} (in), 31 ~{UCAS} (in), 32 ~{LCAS} (in), 33 NC, 34 NC, 35 I/O_8 (in), 36 I/O_9 (in), 37 I/O_10 (in), 38 I/O_11 (in), 39 GND (power), 40 I/O_12 (io), 41 I/O_13 (io), 42 I/O_14 (io), 43 I/O_15 (io), 44 GND (power)
2 alternate drawings of the same symbol

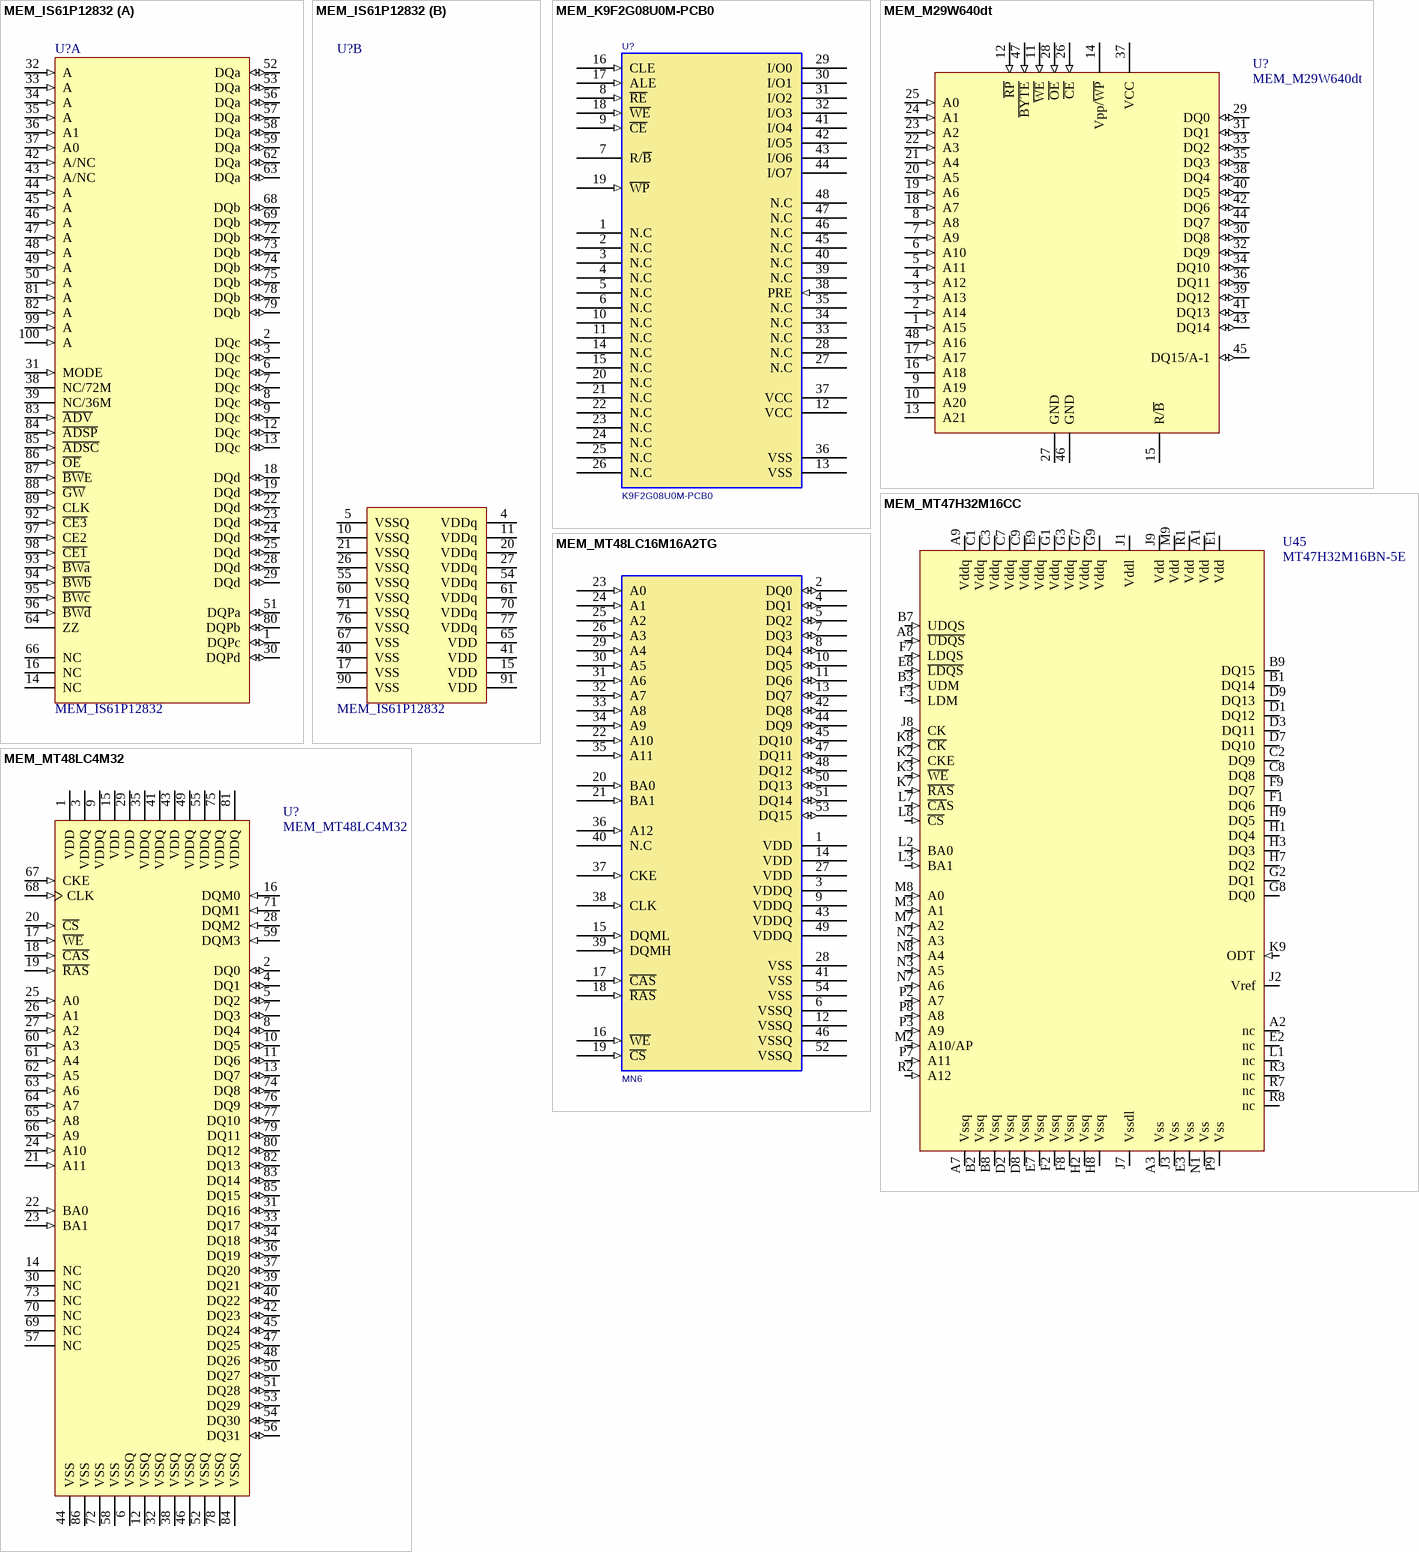
[diagram p30: symbols MEM_IS61P12832 to MEM_MT48LC16M16A2TG]